# Altium schematic symbol library MCU_Texas_MSP430.SchLib: 361 symbols (part 3 of 7)
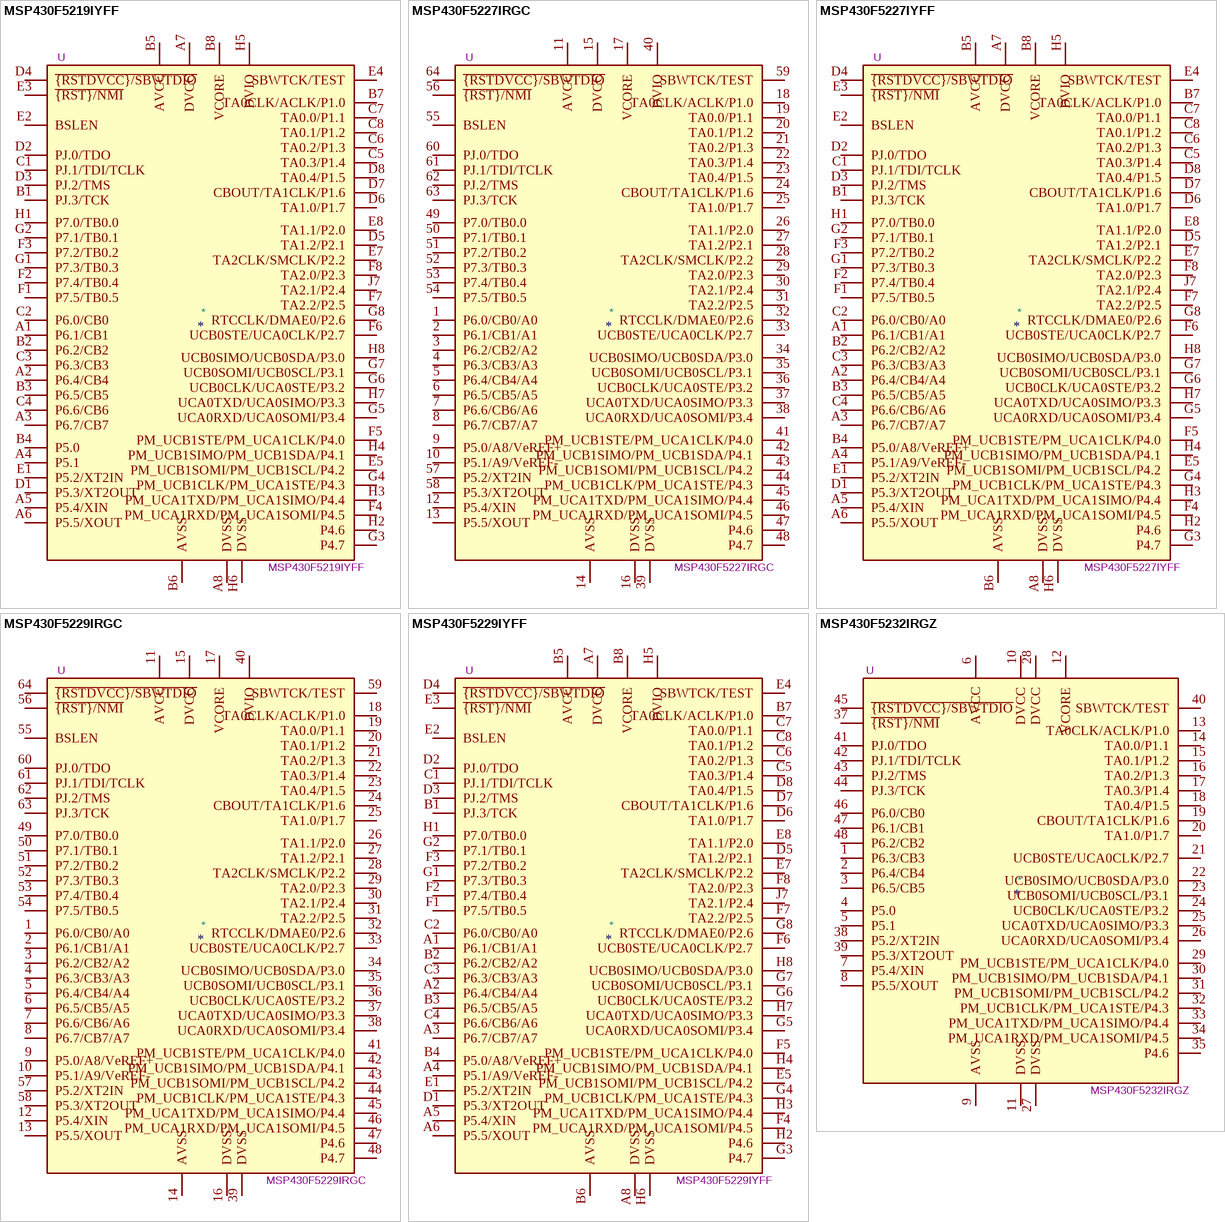
[diagram p36: symbols MSP430F5219IYFF to MSP430F5232IRGZ]

## MSP430F5232IRGZ
designator *  value MSP430F5232IRGZ  Reference: U
ki_keywords: TI MSP430 16-bit mixed signal microcontroller; ki_description: 64kB Flash, 8kB RAM, QFN-48; ki_fp_filters: Texas*S?PVQFN*; Footprint: Package_DFN_QFN:Texas_S-PVQFN-N48_EP5.15x5.15mm; Datasheet: http://www.ti.com/lit/ds/symlink/msp430f5232.pdf
pins: 1 P6.3/CB3, 2 P6.4/CB4, 3 P6.5/CB5, 4 P5.0, 5 P5.1, 6 AVCC, 7 P5.4/XIN, 8 P5.5/XOUT, 9 AVSS, 10 DVCC, 11 DVSS, 12 VCORE, 13 TA0CLK/ACLK/P1.0, 14 TA0.0/P1.1, 15 TA0.1/P1.2, 16 TA0.2/P1.3, 17 TA0.3/P1.4, 18 TA0.4/P1.5, 19 CBOUT/TA1CLK/P1.6, 20 TA1.0/P1.7, 21 UCB0STE/UCA0CLK/P2.7, 22 UCB0SIMO/UCB0SDA/P3.0, 23 UCB0SOMI/UCB0SCL/P3.1, 24 UCB0CLK/UCA0STE/P3.2, 25 UCA0TXD/UCA0SIMO/P3.3, 26 UCA0RXD/UCA0SOMI/P3.4, 27 DVSS, 28 DVCC, 29 PM_UCB1STE/PM_UCA1CLK/P4.0, 30 PM_UCB1SIMO/PM_UCB1SDA/P4.1, 31 PM_UCB1SOMI/PM_UCB1SCL/P4.2, 32 PM_UCB1CLK/PM_UCA1STE/P4.3, 33 PM_UCA1TXD/PM_UCA1SIMO/P4.4, 34 PM_UCA1RXD/PM_UCA1SOMI/P4.5, 35 P4.6, 37 ~{{RST}/NMI}, 38 P5.2/XT2IN, 39 P5.3/XT2OUT, 40 SBWTCK/TEST, 41 PJ.0/TDO, 42 PJ.1/TDI/TCLK, 43 PJ.2/TMS, 44 PJ.3/TCK, 45 ~{{RSTDVCC}/SBWTDIO}, 46 P6.0/CB0, 47 P6.1/CB1, 48 P6.2/CB2

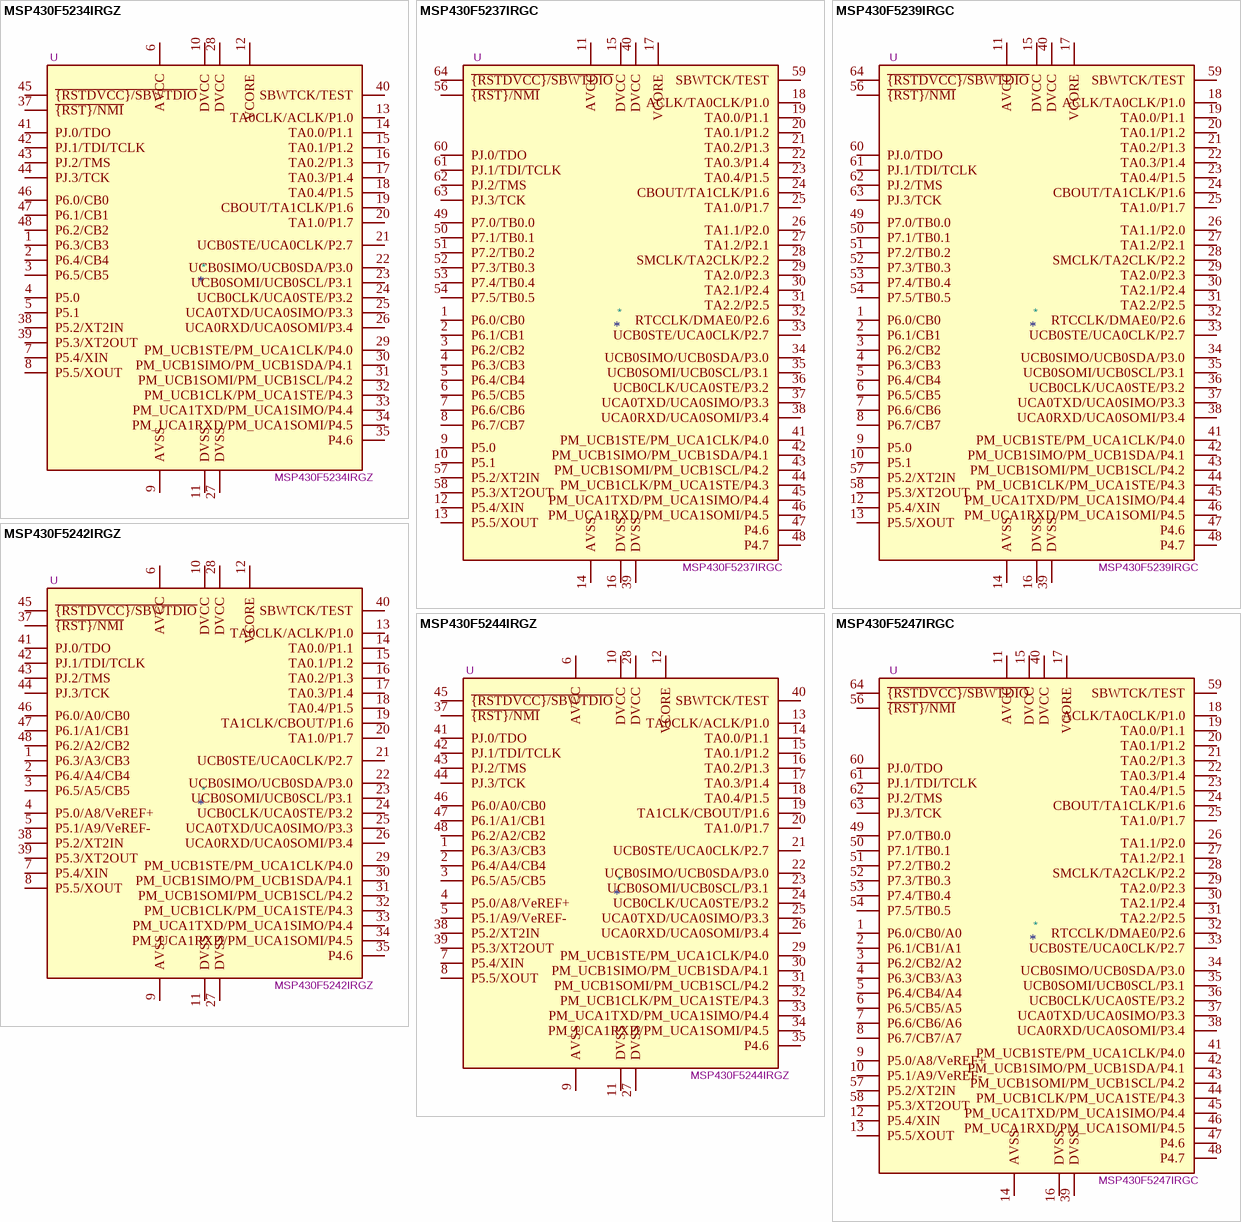
[diagram p9: symbols MSP430F5234IRGZ to MSP430F5247IRGC]

## MSP430F5234IRGZ
designator *  value MSP430F5234IRGZ  Reference: U
ki_keywords: TI MSP430 16-bit mixed signal microcontroller; ki_description: 128kB Flash, 8kB RAM, QFN-48; ki_fp_filters: Texas*S?PVQFN*; Footprint: Package_DFN_QFN:Texas_S-PVQFN-N48_EP5.15x5.15mm; Datasheet: http://www.ti.com/lit/ds/symlink/msp430f5234.pdf
pins: 1 P6.3/CB3, 2 P6.4/CB4, 3 P6.5/CB5, 4 P5.0, 5 P5.1, 6 AVCC, 7 P5.4/XIN, 8 P5.5/XOUT, 9 AVSS, 10 DVCC, 11 DVSS, 12 VCORE, 13 TA0CLK/ACLK/P1.0, 14 TA0.0/P1.1, 15 TA0.1/P1.2, 16 TA0.2/P1.3, 17 TA0.3/P1.4, 18 TA0.4/P1.5, 19 CBOUT/TA1CLK/P1.6, 20 TA1.0/P1.7, 21 UCB0STE/UCA0CLK/P2.7, 22 UCB0SIMO/UCB0SDA/P3.0, 23 UCB0SOMI/UCB0SCL/P3.1, 24 UCB0CLK/UCA0STE/P3.2, 25 UCA0TXD/UCA0SIMO/P3.3, 26 UCA0RXD/UCA0SOMI/P3.4, 27 DVSS, 28 DVCC, 29 PM_UCB1STE/PM_UCA1CLK/P4.0, 30 PM_UCB1SIMO/PM_UCB1SDA/P4.1, 31 PM_UCB1SOMI/PM_UCB1SCL/P4.2, 32 PM_UCB1CLK/PM_UCA1STE/P4.3, 33 PM_UCA1TXD/PM_UCA1SIMO/P4.4, 34 PM_UCA1RXD/PM_UCA1SOMI/P4.5, 35 P4.6, 37 ~{{RST}/NMI}, 38 P5.2/XT2IN, 39 P5.3/XT2OUT, 40 SBWTCK/TEST, 41 PJ.0/TDO, 42 PJ.1/TDI/TCLK, 43 PJ.2/TMS, 44 PJ.3/TCK, 45 ~{{RSTDVCC}/SBWTDIO}, 46 P6.0/CB0, 47 P6.1/CB1, 48 P6.2/CB2

## MSP430F5237IRGC
designator *  value MSP430F5237IRGC  Reference: U
ki_keywords: TI MSP430 16-bit mixed signal microcontroller; ki_description: 64kB Flash, 8kB RAM, QFN-64; ki_fp_filters: Texas*S?PVQFN*; Footprint: Package_DFN_QFN:Texas_S-PVQFN-N64_EP4.25x4.25mm; Datasheet: http://www.ti.com/lit/ds/symlink/msp430f5237.pdf
pins: 1 P6.0/CB0, 2 P6.1/CB1, 3 P6.2/CB2, 4 P6.3/CB3, 5 P6.4/CB4, 6 P6.5/CB5, 7 P6.6/CB6, 8 P6.7/CB7, 9 P5.0, 10 P5.1, 11 AVCC, 12 P5.4/XIN, 13 P5.5/XOUT, 14 AVSS, 15 DVCC, 16 DVSS, 17 VCORE, 18 ACLK/TA0CLK/P1.0, 19 TA0.0/P1.1, 20 TA0.1/P1.2, 21 TA0.2/P1.3, 22 TA0.3/P1.4, 23 TA0.4/P1.5, 24 CBOUT/TA1CLK/P1.6, 25 TA1.0/P1.7, 26 TA1.1/P2.0, 27 TA1.2/P2.1, 28 SMCLK/TA2CLK/P2.2, 29 TA2.0/P2.3, 30 TA2.1/P2.4, 31 TA2.2/P2.5, 32 RTCCLK/DMAE0/P2.6, 33 UCB0STE/UCA0CLK/P2.7, 34 UCB0SIMO/UCB0SDA/P3.0, 35 UCB0SOMI/UCB0SCL/P3.1, 36 UCB0CLK/UCA0STE/P3.2, 37 UCA0TXD/UCA0SIMO/P3.3, 38 UCA0RXD/UCA0SOMI/P3.4, 39 DVSS, 40 DVCC, 41 PM_UCB1STE/PM_UCA1CLK/P4.0, 42 PM_UCB1SIMO/PM_UCB1SDA/P4.1, 43 PM_UCB1SOMI/PM_UCB1SCL/P4.2, 44 PM_UCB1CLK/PM_UCA1STE/P4.3, 45 PM_UCA1TXD/PM_UCA1SIMO/P4.4, 46 PM_UCA1RXD/PM_UCA1SOMI/P4.5, 47 P4.6, 48 P4.7, 49 P7.0/TB0.0, 50 P7.1/TB0.1, 51 P7.2/TB0.2, 52 P7.3/TB0.3, 53 P7.4/TB0.4, 54 P7.5/TB0.5, 56 ~{{RST}/NMI}, 57 P5.2/XT2IN, 58 P5.3/XT2OUT, 59 SBWTCK/TEST, 60 PJ.0/TDO, 61 PJ.1/TDI/TCLK, 62 PJ.2/TMS, 63 PJ.3/TCK, 64 ~{{RSTDVCC}/SBWTDIO}

## MSP430F5239IRGC
designator *  value MSP430F5239IRGC  Reference: U
ki_keywords: TI MSP430 16-bit mixed signal microcontroller; ki_description: 128kB Flash, 8kB RAM, QFN-64; ki_fp_filters: Texas*S?PVQFN*; Footprint: Package_DFN_QFN:Texas_S-PVQFN-N64_EP4.25x4.25mm; Datasheet: http://www.ti.com/lit/ds/symlink/msp430f5239.pdf
pins: 1 P6.0/CB0, 2 P6.1/CB1, 3 P6.2/CB2, 4 P6.3/CB3, 5 P6.4/CB4, 6 P6.5/CB5, 7 P6.6/CB6, 8 P6.7/CB7, 9 P5.0, 10 P5.1, 11 AVCC, 12 P5.4/XIN, 13 P5.5/XOUT, 14 AVSS, 15 DVCC, 16 DVSS, 17 VCORE, 18 ACLK/TA0CLK/P1.0, 19 TA0.0/P1.1, 20 TA0.1/P1.2, 21 TA0.2/P1.3, 22 TA0.3/P1.4, 23 TA0.4/P1.5, 24 CBOUT/TA1CLK/P1.6, 25 TA1.0/P1.7, 26 TA1.1/P2.0, 27 TA1.2/P2.1, 28 SMCLK/TA2CLK/P2.2, 29 TA2.0/P2.3, 30 TA2.1/P2.4, 31 TA2.2/P2.5, 32 RTCCLK/DMAE0/P2.6, 33 UCB0STE/UCA0CLK/P2.7, 34 UCB0SIMO/UCB0SDA/P3.0, 35 UCB0SOMI/UCB0SCL/P3.1, 36 UCB0CLK/UCA0STE/P3.2, 37 UCA0TXD/UCA0SIMO/P3.3, 38 UCA0RXD/UCA0SOMI/P3.4, 39 DVSS, 40 DVCC, 41 PM_UCB1STE/PM_UCA1CLK/P4.0, 42 PM_UCB1SIMO/PM_UCB1SDA/P4.1, 43 PM_UCB1SOMI/PM_UCB1SCL/P4.2, 44 PM_UCB1CLK/PM_UCA1STE/P4.3, 45 PM_UCA1TXD/PM_UCA1SIMO/P4.4, 46 PM_UCA1RXD/PM_UCA1SOMI/P4.5, 47 P4.6, 48 P4.7, 49 P7.0/TB0.0, 50 P7.1/TB0.1, 51 P7.2/TB0.2, 52 P7.3/TB0.3, 53 P7.4/TB0.4, 54 P7.5/TB0.5, 56 ~{{RST}/NMI}, 57 P5.2/XT2IN, 58 P5.3/XT2OUT, 59 SBWTCK/TEST, 60 PJ.0/TDO, 61 PJ.1/TDI/TCLK, 62 PJ.2/TMS, 63 PJ.3/TCK, 64 ~{{RSTDVCC}/SBWTDIO}

## MSP430F5242IRGZ
designator *  value MSP430F5242IRGZ  Reference: U
ki_keywords: TI MSP430 16-bit mixed signal microcontroller; ki_description: 64kB Flash, 8kB RAM, QFN-48; ki_fp_filters: Texas*S?PVQFN*; Footprint: Package_DFN_QFN:Texas_S-PVQFN-N48_EP5.15x5.15mm; Datasheet: http://www.ti.com/lit/ds/symlink/msp430f5242.pdf
pins: 1 P6.3/A3/CB3, 2 P6.4/A4/CB4, 3 P6.5/A5/CB5, 4 P5.0/A8/VeREF+, 5 P5.1/A9/VeREF-, 6 AVCC, 7 P5.4/XIN, 8 P5.5/XOUT, 9 AVSS, 10 DVCC, 11 DVSS, 12 VCORE, 13 TA0CLK/ACLK/P1.0, 14 TA0.0/P1.1, 15 TA0.1/P1.2, 16 TA0.2/P1.3, 17 TA0.3/P1.4, 18 TA0.4/P1.5, 19 TA1CLK/CBOUT/P1.6, 20 TA1.0/P1.7, 21 UCB0STE/UCA0CLK/P2.7, 22 UCB0SIMO/UCB0SDA/P3.0, 23 UCB0SOMI/UCB0SCL/P3.1, 24 UCB0CLK/UCA0STE/P3.2, 25 UCA0TXD/UCA0SIMO/P3.3, 26 UCA0RXD/UCA0SOMI/P3.4, 27 DVSS, 28 DVCC, 29 PM_UCB1STE/PM_UCA1CLK/P4.0, 30 PM_UCB1SIMO/PM_UCB1SDA/P4.1, 31 PM_UCB1SOMI/PM_UCB1SCL/P4.2, 32 PM_UCB1CLK/PM_UCA1STE/P4.3, 33 PM_UCA1TXD/PM_UCA1SIMO/P4.4, 34 PM_UCA1RXD/PM_UCA1SOMI/P4.5, 35 P4.6, 37 ~{{RST}/NMI}, 38 P5.2/XT2IN, 39 P5.3/XT2OUT, 40 SBWTCK/TEST, 41 PJ.0/TDO, 42 PJ.1/TDI/TCLK, 43 PJ.2/TMS, 44 PJ.3/TCK, 45 ~{{RSTDVCC}/SBWTDIO}, 46 P6.0/A0/CB0, 47 P6.1/A1/CB1, 48 P6.2/A2/CB2

## MSP430F5244IRGZ
designator *  value MSP430F5244IRGZ  Reference: U
ki_keywords: TI MSP430 16-bit mixed signal microcontroller; ki_description: 128kB Flash, 8kB RAM, QFN-48; ki_fp_filters: Texas*S?PVQFN*; Footprint: Package_DFN_QFN:Texas_S-PVQFN-N48_EP5.15x5.15mm; Datasheet: http://www.ti.com/lit/ds/symlink/msp430f5244.pdf
pins: 1 P6.3/A3/CB3, 2 P6.4/A4/CB4, 3 P6.5/A5/CB5, 4 P5.0/A8/VeREF+, 5 P5.1/A9/VeREF-, 6 AVCC, 7 P5.4/XIN, 8 P5.5/XOUT, 9 AVSS, 10 DVCC, 11 DVSS, 12 VCORE, 13 TA0CLK/ACLK/P1.0, 14 TA0.0/P1.1, 15 TA0.1/P1.2, 16 TA0.2/P1.3, 17 TA0.3/P1.4, 18 TA0.4/P1.5, 19 TA1CLK/CBOUT/P1.6, 20 TA1.0/P1.7, 21 UCB0STE/UCA0CLK/P2.7, 22 UCB0SIMO/UCB0SDA/P3.0, 23 UCB0SOMI/UCB0SCL/P3.1, 24 UCB0CLK/UCA0STE/P3.2, 25 UCA0TXD/UCA0SIMO/P3.3, 26 UCA0RXD/UCA0SOMI/P3.4, 27 DVSS, 28 DVCC, 29 PM_UCB1STE/PM_UCA1CLK/P4.0, 30 PM_UCB1SIMO/PM_UCB1SDA/P4.1, 31 PM_UCB1SOMI/PM_UCB1SCL/P4.2, 32 PM_UCB1CLK/PM_UCA1STE/P4.3, 33 PM_UCA1TXD/PM_UCA1SIMO/P4.4, 34 PM_UCA1RXD/PM_UCA1SOMI/P4.5, 35 P4.6, 37 ~{{RST}/NMI}, 38 P5.2/XT2IN, 39 P5.3/XT2OUT, 40 SBWTCK/TEST, 41 PJ.0/TDO, 42 PJ.1/TDI/TCLK, 43 PJ.2/TMS, 44 PJ.3/TCK, 45 ~{{RSTDVCC}/SBWTDIO}, 46 P6.0/A0/CB0, 47 P6.1/A1/CB1, 48 P6.2/A2/CB2

## MSP430F5247IRGC
designator *  value MSP430F5247IRGC  Reference: U
ki_keywords: TI MSP430 16-bit mixed signal microcontroller; ki_description: 64kB Flash, 8kB RAM, QFN-64; ki_fp_filters: Texas*S?PVQFN*; Footprint: Package_DFN_QFN:Texas_S-PVQFN-N64_EP4.25x4.25mm; Datasheet: http://www.ti.com/lit/ds/symlink/msp430f5247.pdf
pins: 1 P6.0/CB0/A0, 2 P6.1/CB1/A1, 3 P6.2/CB2/A2, 4 P6.3/CB3/A3, 5 P6.4/CB4/A4, 6 P6.5/CB5/A5, 7 P6.6/CB6/A6, 8 P6.7/CB7/A7, 9 P5.0/A8/VeREF+, 10 P5.1/A9/VeREF-, 11 AVCC, 12 P5.4/XIN, 13 P5.5/XOUT, 14 AVSS, 15 DVCC, 16 DVSS, 17 VCORE, 18 ACLK/TA0CLK/P1.0, 19 TA0.0/P1.1, 20 TA0.1/P1.2, 21 TA0.2/P1.3, 22 TA0.3/P1.4, 23 TA0.4/P1.5, 24 CBOUT/TA1CLK/P1.6, 25 TA1.0/P1.7, 26 TA1.1/P2.0, 27 TA1.2/P2.1, 28 SMCLK/TA2CLK/P2.2, 29 TA2.0/P2.3, 30 TA2.1/P2.4, 31 TA2.2/P2.5, 32 RTCCLK/DMAE0/P2.6, 33 UCB0STE/UCA0CLK/P2.7, 34 UCB0SIMO/UCB0SDA/P3.0, 35 UCB0SOMI/UCB0SCL/P3.1, 36 UCB0CLK/UCA0STE/P3.2, 37 UCA0TXD/UCA0SIMO/P3.3, 38 UCA0RXD/UCA0SOMI/P3.4, 39 DVSS, 40 DVCC, 41 PM_UCB1STE/PM_UCA1CLK/P4.0, 42 PM_UCB1SIMO/PM_UCB1SDA/P4.1, 43 PM_UCB1SOMI/PM_UCB1SCL/P4.2, 44 PM_UCB1CLK/PM_UCA1STE/P4.3, 45 PM_UCA1TXD/PM_UCA1SIMO/P4.4, 46 PM_UCA1RXD/PM_UCA1SOMI/P4.5, 47 P4.6, 48 P4.7, 49 P7.0/TB0.0, 50 P7.1/TB0.1, 51 P7.2/TB0.2, 52 P7.3/TB0.3, 53 P7.4/TB0.4, 54 P7.5/TB0.5, 56 ~{{RST}/NMI}, 57 P5.2/XT2IN, 58 P5.3/XT2OUT, 59 SBWTCK/TEST, 60 PJ.0/TDO, 61 PJ.1/TDI/TCLK, 62 PJ.2/TMS, 63 PJ.3/TCK, 64 ~{{RSTDVCC}/SBWTDIO}

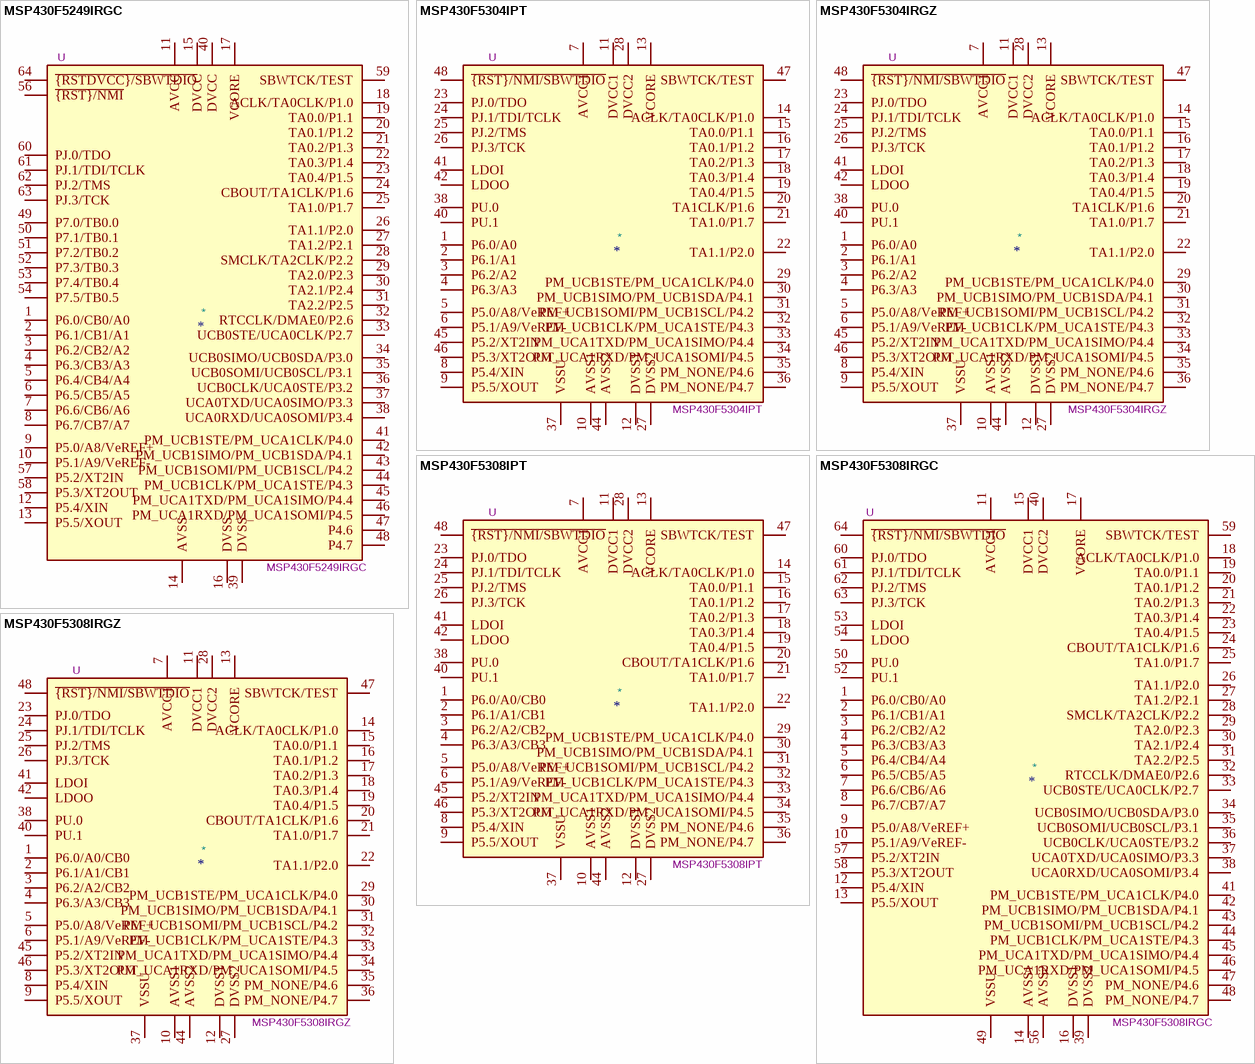
[diagram p10: symbols MSP430F5249IRGC to MSP430F5308IRGZ]

## MSP430F5249IRGC
designator *  value MSP430F5249IRGC  Reference: U
ki_keywords: TI MSP430 16-bit mixed signal microcontroller; ki_description: 128kB Flash, 8kB RAM, QFN-64; ki_fp_filters: Texas*S?PVQFN*; Footprint: Package_DFN_QFN:Texas_S-PVQFN-N64_EP4.25x4.25mm; Datasheet: http://www.ti.com/lit/ds/symlink/msp430f5249.pdf
pins: 1 P6.0/CB0/A0, 2 P6.1/CB1/A1, 3 P6.2/CB2/A2, 4 P6.3/CB3/A3, 5 P6.4/CB4/A4, 6 P6.5/CB5/A5, 7 P6.6/CB6/A6, 8 P6.7/CB7/A7, 9 P5.0/A8/VeREF+, 10 P5.1/A9/VeREF-, 11 AVCC, 12 P5.4/XIN, 13 P5.5/XOUT, 14 AVSS, 15 DVCC, 16 DVSS, 17 VCORE, 18 ACLK/TA0CLK/P1.0, 19 TA0.0/P1.1, 20 TA0.1/P1.2, 21 TA0.2/P1.3, 22 TA0.3/P1.4, 23 TA0.4/P1.5, 24 CBOUT/TA1CLK/P1.6, 25 TA1.0/P1.7, 26 TA1.1/P2.0, 27 TA1.2/P2.1, 28 SMCLK/TA2CLK/P2.2, 29 TA2.0/P2.3, 30 TA2.1/P2.4, 31 TA2.2/P2.5, 32 RTCCLK/DMAE0/P2.6, 33 UCB0STE/UCA0CLK/P2.7, 34 UCB0SIMO/UCB0SDA/P3.0, 35 UCB0SOMI/UCB0SCL/P3.1, 36 UCB0CLK/UCA0STE/P3.2, 37 UCA0TXD/UCA0SIMO/P3.3, 38 UCA0RXD/UCA0SOMI/P3.4, 39 DVSS, 40 DVCC, 41 PM_UCB1STE/PM_UCA1CLK/P4.0, 42 PM_UCB1SIMO/PM_UCB1SDA/P4.1, 43 PM_UCB1SOMI/PM_UCB1SCL/P4.2, 44 PM_UCB1CLK/PM_UCA1STE/P4.3, 45 PM_UCA1TXD/PM_UCA1SIMO/P4.4, 46 PM_UCA1RXD/PM_UCA1SOMI/P4.5, 47 P4.6, 48 P4.7, 49 P7.0/TB0.0, 50 P7.1/TB0.1, 51 P7.2/TB0.2, 52 P7.3/TB0.3, 53 P7.4/TB0.4, 54 P7.5/TB0.5, 56 ~{{RST}/NMI}, 57 P5.2/XT2IN, 58 P5.3/XT2OUT, 59 SBWTCK/TEST, 60 PJ.0/TDO, 61 PJ.1/TDI/TCLK, 62 PJ.2/TMS, 63 PJ.3/TCK, 64 ~{{RSTDVCC}/SBWTDIO}

## MSP430F5304IPT
designator *  value MSP430F5304IPT  Reference: U
ki_keywords: TI MSP430 16-bit mixed signal microcontroller; ki_description: 8kB Flash, 6kB RAM, LQFP-48; ki_fp_filters: LQFP*7x7mm*P0.5mm*; Footprint: Package_QFP:LQFP-48_7x7mm_P0.5mm; Datasheet: http://www.ti.com/lit/ds/symlink/msp430f5304.pdf
pins: 1 P6.0/A0, 2 P6.1/A1, 3 P6.2/A2, 4 P6.3/A3, 5 P5.0/A8/VeREF+, 6 P5.1/A9/VeREF-, 7 AVCC1, 8 P5.4/XIN, 9 P5.5/XOUT, 10 AVSS1, 11 DVCC1, 12 DVSS1, 13 VCORE, 14 ACLK/TA0CLK/P1.0, 15 TA0.0/P1.1, 16 TA0.1/P1.2, 17 TA0.2/P1.3, 18 TA0.3/P1.4, 19 TA0.4/P1.5, 20 TA1CLK/P1.6, 21 TA1.0/P1.7, 22 TA1.1/P2.0, 23 PJ.0/TDO, 24 PJ.1/TDI/TCLK, 25 PJ.2/TMS, 26 PJ.3/TCK, 27 DVSS2, 28 DVCC2, 29 PM_UCB1STE/PM_UCA1CLK/P4.0, 30 PM_UCB1SIMO/PM_UCB1SDA/P4.1, 31 PM_UCB1SOMI/PM_UCB1SCL/P4.2, 32 PM_UCB1CLK/PM_UCA1STE/P4.3, 33 PM_UCA1TXD/PM_UCA1SIMO/P4.4, 34 PM_UCA1RXD/PM_UCA1SOMI/P4.5, 35 PM_NONE/P4.6, 36 PM_NONE/P4.7, 37 VSSU, 38 PU.0, 40 PU.1, 41 LDOI, 42 LDOO, 44 AVSS2, 45 P5.2/XT2IN, 46 P5.3/XT2OUT, 47 SBWTCK/TEST, 48 ~{{RST}/NMI/SBWTDIO}

## MSP430F5304IRGZ
designator *  value MSP430F5304IRGZ  Reference: U
ki_keywords: TI MSP430 16-bit mixed signal microcontroller; ki_description: 8kB Flash, 6kB RAM, QFN-48; ki_fp_filters: Texas*S?PVQFN*; Footprint: Package_DFN_QFN:Texas_S-PVQFN-N48_EP5.15x5.15mm; Datasheet: http://www.ti.com/lit/ds/symlink/msp430f5304.pdf
pins: 1 P6.0/A0, 2 P6.1/A1, 3 P6.2/A2, 4 P6.3/A3, 5 P5.0/A8/VeREF+, 6 P5.1/A9/VeREF-, 7 AVCC1, 8 P5.4/XIN, 9 P5.5/XOUT, 10 AVSS1, 11 DVCC1, 12 DVSS1, 13 VCORE, 14 ACLK/TA0CLK/P1.0, 15 TA0.0/P1.1, 16 TA0.1/P1.2, 17 TA0.2/P1.3, 18 TA0.3/P1.4, 19 TA0.4/P1.5, 20 TA1CLK/P1.6, 21 TA1.0/P1.7, 22 TA1.1/P2.0, 23 PJ.0/TDO, 24 PJ.1/TDI/TCLK, 25 PJ.2/TMS, 26 PJ.3/TCK, 27 DVSS2, 28 DVCC2, 29 PM_UCB1STE/PM_UCA1CLK/P4.0, 30 PM_UCB1SIMO/PM_UCB1SDA/P4.1, 31 PM_UCB1SOMI/PM_UCB1SCL/P4.2, 32 PM_UCB1CLK/PM_UCA1STE/P4.3, 33 PM_UCA1TXD/PM_UCA1SIMO/P4.4, 34 PM_UCA1RXD/PM_UCA1SOMI/P4.5, 35 PM_NONE/P4.6, 36 PM_NONE/P4.7, 37 VSSU, 38 PU.0, 40 PU.1, 41 LDOI, 42 LDOO, 44 AVSS2, 45 P5.2/XT2IN, 46 P5.3/XT2OUT, 47 SBWTCK/TEST, 48 ~{{RST}/NMI/SBWTDIO}

## MSP430F5308IPT
designator *  value MSP430F5308IPT  Reference: U
ki_keywords: TI MSP430 16-bit mixed signal microcontroller; ki_description: 16kB Flash, 6kB RAM, LQFP-48; ki_fp_filters: LQFP*7x7mm*P0.5mm*; Footprint: Package_QFP:LQFP-48_7x7mm_P0.5mm; Datasheet: http://www.ti.com/lit/ds/symlink/msp430f5308.pdf
pins: 1 P6.0/A0/CB0, 2 P6.1/A1/CB1, 3 P6.2/A2/CB2, 4 P6.3/A3/CB3, 5 P5.0/A8/VeREF+, 6 P5.1/A9/VeREF-, 7 AVCC1, 8 P5.4/XIN, 9 P5.5/XOUT, 10 AVSS1, 11 DVCC1, 12 DVSS1, 13 VCORE, 14 ACLK/TA0CLK/P1.0, 15 TA0.0/P1.1, 16 TA0.1/P1.2, 17 TA0.2/P1.3, 18 TA0.3/P1.4, 19 TA0.4/P1.5, 20 CBOUT/TA1CLK/P1.6, 21 TA1.0/P1.7, 22 TA1.1/P2.0, 23 PJ.0/TDO, 24 PJ.1/TDI/TCLK, 25 PJ.2/TMS, 26 PJ.3/TCK, 27 DVSS2, 28 DVCC2, 29 PM_UCB1STE/PM_UCA1CLK/P4.0, 30 PM_UCB1SIMO/PM_UCB1SDA/P4.1, 31 PM_UCB1SOMI/PM_UCB1SCL/P4.2, 32 PM_UCB1CLK/PM_UCA1STE/P4.3, 33 PM_UCA1TXD/PM_UCA1SIMO/P4.4, 34 PM_UCA1RXD/PM_UCA1SOMI/P4.5, 35 PM_NONE/P4.6, 36 PM_NONE/P4.7, 37 VSSU, 38 PU.0, 40 PU.1, 41 LDOI, 42 LDOO, 44 AVSS2, 45 P5.2/XT2IN, 46 P5.3/XT2OUT, 47 SBWTCK/TEST, 48 ~{{RST}/NMI/SBWTDIO}

## MSP430F5308IRGC
designator *  value MSP430F5308IRGC  Reference: U
ki_keywords: TI MSP430 16-bit mixed signal microcontroller; ki_description: 16kB Flash, 6kB RAM, QFN-64; ki_fp_filters: Texas*S?PVQFN*; Footprint: Package_DFN_QFN:Texas_S-PVQFN-N64_EP4.25x4.25mm; Datasheet: http://www.ti.com/lit/ds/symlink/msp430f5308.pdf
pins: 1 P6.0/CB0/A0, 2 P6.1/CB1/A1, 3 P6.2/CB2/A2, 4 P6.3/CB3/A3, 5 P6.4/CB4/A4, 6 P6.5/CB5/A5, 7 P6.6/CB6/A6, 8 P6.7/CB7/A7, 9 P5.0/A8/VeREF+, 10 P5.1/A9/VeREF-, 11 AVCC1, 12 P5.4/XIN, 13 P5.5/XOUT, 14 AVSS1, 15 DVCC1, 16 DVSS1, 17 VCORE, 18 ACLK/TA0CLK/P1.0, 19 TA0.0/P1.1, 20 TA0.1/P1.2, 21 TA0.2/P1.3, 22 TA0.3/P1.4, 23 TA0.4/P1.5, 24 CBOUT/TA1CLK/P1.6, 25 TA1.0/P1.7, 26 TA1.1/P2.0, 27 TA1.2/P2.1, 28 SMCLK/TA2CLK/P2.2, 29 TA2.0/P2.3, 30 TA2.1/P2.4, 31 TA2.2/P2.5, 32 RTCCLK/DMAE0/P2.6, 33 UCB0STE/UCA0CLK/P2.7, 34 UCB0SIMO/UCB0SDA/P3.0, 35 UCB0SOMI/UCB0SCL/P3.1, 36 UCB0CLK/UCA0STE/P3.2, 37 UCA0TXD/UCA0SIMO/P3.3, 38 UCA0RXD/UCA0SOMI/P3.4, 39 DVSS2, 40 DVCC2, 41 PM_UCB1STE/PM_UCA1CLK/P4.0, 42 PM_UCB1SIMO/PM_UCB1SDA/P4.1, 43 PM_UCB1SOMI/PM_UCB1SCL/P4.2, 44 PM_UCB1CLK/PM_UCA1STE/P4.3, 45 PM_UCA1TXD/PM_UCA1SIMO/P4.4, 46 PM_UCA1RXD/PM_UCA1SOMI/P4.5, 47 PM_NONE/P4.6, 48 PM_NONE/P4.7, 49 VSSU, 50 PU.0, 52 PU.1, 53 LDOI, 54 LDOO, 56 AVSS2, 57 P5.2/XT2IN, 58 P5.3/XT2OUT, 59 SBWTCK/TEST, 60 PJ.0/TDO, 61 PJ.1/TDI/TCLK, 62 PJ.2/TMS, 63 PJ.3/TCK, 64 ~{{RST}/NMI/SBWTDIO}

## MSP430F5308IRGZ
designator *  value MSP430F5308IRGZ  Reference: U
ki_keywords: TI MSP430 16-bit mixed signal microcontroller; ki_description: 16kB Flash, 6kB RAM, QFN-48; ki_fp_filters: Texas*S?PVQFN*; Footprint: Package_DFN_QFN:Texas_S-PVQFN-N48_EP5.15x5.15mm; Datasheet: http://www.ti.com/lit/ds/symlink/msp430f5308.pdf
pins: 1 P6.0/A0/CB0, 2 P6.1/A1/CB1, 3 P6.2/A2/CB2, 4 P6.3/A3/CB3, 5 P5.0/A8/VeREF+, 6 P5.1/A9/VeREF-, 7 AVCC1, 8 P5.4/XIN, 9 P5.5/XOUT, 10 AVSS1, 11 DVCC1, 12 DVSS1, 13 VCORE, 14 ACLK/TA0CLK/P1.0, 15 TA0.0/P1.1, 16 TA0.1/P1.2, 17 TA0.2/P1.3, 18 TA0.3/P1.4, 19 TA0.4/P1.5, 20 CBOUT/TA1CLK/P1.6, 21 TA1.0/P1.7, 22 TA1.1/P2.0, 23 PJ.0/TDO, 24 PJ.1/TDI/TCLK, 25 PJ.2/TMS, 26 PJ.3/TCK, 27 DVSS2, 28 DVCC2, 29 PM_UCB1STE/PM_UCA1CLK/P4.0, 30 PM_UCB1SIMO/PM_UCB1SDA/P4.1, 31 PM_UCB1SOMI/PM_UCB1SCL/P4.2, 32 PM_UCB1CLK/PM_UCA1STE/P4.3, 33 PM_UCA1TXD/PM_UCA1SIMO/P4.4, 34 PM_UCA1RXD/PM_UCA1SOMI/P4.5, 35 PM_NONE/P4.6, 36 PM_NONE/P4.7, 37 VSSU, 38 PU.0, 40 PU.1, 41 LDOI, 42 LDOO, 44 AVSS2, 45 P5.2/XT2IN, 46 P5.3/XT2OUT, 47 SBWTCK/TEST, 48 ~{{RST}/NMI/SBWTDIO}

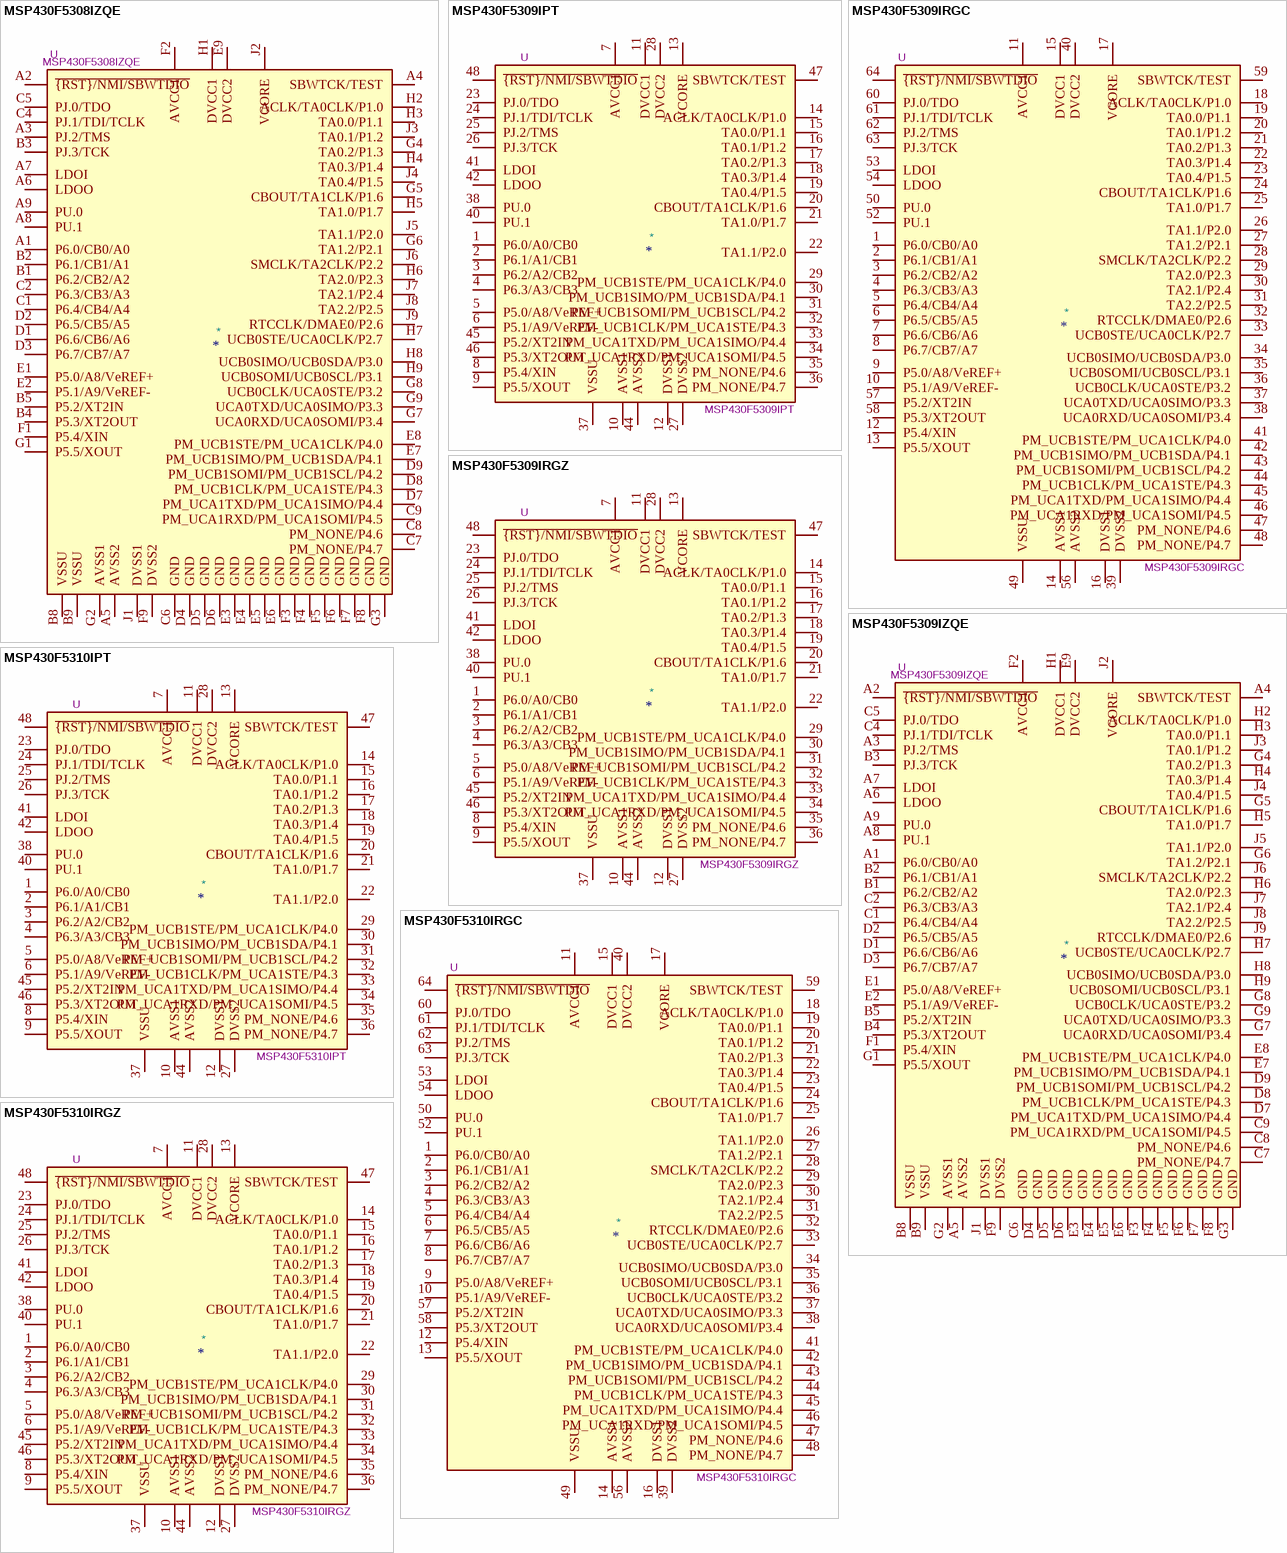
[diagram p11: symbols MSP430F5308IZQE to MSP430F5310IRGZ]

## MSP430F5308IZQE
designator *  value MSP430F5308IZQE  Reference: U
ki_keywords: TI MSP430 16-bit mixed signal microcontroller; ki_description: 16kB Flash, 6kB RAM, BGA-80; ki_fp_filters: Texas*MicroStar*Junior*BGA*5.0x5.0mm*Layout9x9*P0.5mm*; Footprint: Package_BGA:Texas_MicroStar_Junior_BGA-80_5.0x5.0mm_Layout9x9_P0.5mm; Datasheet: http://www.ti.com/lit/ds/symlink/msp430f5308.pdf
pins: A1 P6.0/CB0/A0, A2 ~{{RST}/NMI/SBWTDIO}, A3 PJ.2/TMS, A4 SBWTCK/TEST, A5 AVSS2, A6 LDOO, A7 LDOI, A8 PU.1, A9 PU.0, B1 P6.2/CB2/A2, B2 P6.1/CB1/A1, B3 PJ.3/TCK, B4 P5.3/XT2OUT, B5 P5.2/XT2IN, B8 VSSU, B9 VSSU, C1 P6.4/CB4/A4, C2 P6.3/CB3/A3, C4 PJ.1/TDI/TCLK, C5 PJ.0/TDO, C6 GND, C7 PM_NONE/P4.7, C8 PM_NONE/P4.6, C9 PM_UCA1RXD/PM_UCA1SOMI/P4.5, D1 P6.6/CB6/A6, D2 P6.5/CB5/A5, D3 P6.7/CB7/A7, D4 GND, D5 GND, D6 GND, D7 PM_UCA1TXD/PM_UCA1SIMO/P4.4, D8 PM_UCB1CLK/PM_UCA1STE/P4.3, D9 PM_UCB1SOMI/PM_UCB1SCL/P4.2, E1 P5.0/A8/VeREF+, E2 P5.1/A9/VeREF-, E3 GND, E4 GND, E5 GND, E6 GND, E7 PM_UCB1SIMO/PM_UCB1SDA/P4.1, E8 PM_UCB1STE/PM_UCA1CLK/P4.0, E9 DVCC2, F1 P5.4/XIN, F2 AVCC1, F3 GND, F4 GND, F5 GND, F6 GND, F7 GND, F8 GND, F9 DVSS2, G1 P5.5/XOUT, G2 AVSS1, G3 GND, G4 TA0.2/P1.3, G5 CBOUT/TA1CLK/P1.6, G6 TA1.2/P2.1, G7 UCA0RXD/UCA0SOMI/P3.4, G8 UCB0CLK/UCA0STE/P3.2, G9 UCA0TXD/UCA0SIMO/P3.3, H1 DVCC1, H2 ACLK/TA0CLK/P1.0, H3 TA0.0/P1.1, H4 TA0.3/P1.4, H5 TA1.0/P1.7, H6 TA2.0/P2.3, H7 UCB0STE/UCA0CLK/P2.7, H8 UCB0SIMO/UCB0SDA/P3.0, H9 UCB0SOMI/UCB0SCL/P3.1, J1 DVSS1, J2 VCORE, J3 TA0.1/P1.2, J4 TA0.4/P1.5, J5 TA1.1/P2.0, J6 SMCLK/TA2CLK/P2.2, J7 TA2.1/P2.4, J8 TA2.2/P2.5, J9 RTCCLK/DMAE0/P2.6

## MSP430F5309IPT
designator *  value MSP430F5309IPT  Reference: U
ki_keywords: TI MSP430 16-bit mixed signal microcontroller; ki_description: 24kB Flash, 6kB RAM, LQFP-48; ki_fp_filters: LQFP*7x7mm*P0.5mm*; Footprint: Package_QFP:LQFP-48_7x7mm_P0.5mm; Datasheet: http://www.ti.com/lit/ds/symlink/msp430f5309.pdf
pins: 1 P6.0/A0/CB0, 2 P6.1/A1/CB1, 3 P6.2/A2/CB2, 4 P6.3/A3/CB3, 5 P5.0/A8/VeREF+, 6 P5.1/A9/VeREF-, 7 AVCC1, 8 P5.4/XIN, 9 P5.5/XOUT, 10 AVSS1, 11 DVCC1, 12 DVSS1, 13 VCORE, 14 ACLK/TA0CLK/P1.0, 15 TA0.0/P1.1, 16 TA0.1/P1.2, 17 TA0.2/P1.3, 18 TA0.3/P1.4, 19 TA0.4/P1.5, 20 CBOUT/TA1CLK/P1.6, 21 TA1.0/P1.7, 22 TA1.1/P2.0, 23 PJ.0/TDO, 24 PJ.1/TDI/TCLK, 25 PJ.2/TMS, 26 PJ.3/TCK, 27 DVSS2, 28 DVCC2, 29 PM_UCB1STE/PM_UCA1CLK/P4.0, 30 PM_UCB1SIMO/PM_UCB1SDA/P4.1, 31 PM_UCB1SOMI/PM_UCB1SCL/P4.2, 32 PM_UCB1CLK/PM_UCA1STE/P4.3, 33 PM_UCA1TXD/PM_UCA1SIMO/P4.4, 34 PM_UCA1RXD/PM_UCA1SOMI/P4.5, 35 PM_NONE/P4.6, 36 PM_NONE/P4.7, 37 VSSU, 38 PU.0, 40 PU.1, 41 LDOI, 42 LDOO, 44 AVSS2, 45 P5.2/XT2IN, 46 P5.3/XT2OUT, 47 SBWTCK/TEST, 48 ~{{RST}/NMI/SBWTDIO}

## MSP430F5309IRGC
designator *  value MSP430F5309IRGC  Reference: U
ki_keywords: TI MSP430 16-bit mixed signal microcontroller; ki_description: 24kB Flash, 6kB RAM, QFN-64; ki_fp_filters: Texas*S?PVQFN*; Footprint: Package_DFN_QFN:Texas_S-PVQFN-N64_EP4.25x4.25mm; Datasheet: http://www.ti.com/lit/ds/symlink/msp430f5309.pdf
pins: 1 P6.0/CB0/A0, 2 P6.1/CB1/A1, 3 P6.2/CB2/A2, 4 P6.3/CB3/A3, 5 P6.4/CB4/A4, 6 P6.5/CB5/A5, 7 P6.6/CB6/A6, 8 P6.7/CB7/A7, 9 P5.0/A8/VeREF+, 10 P5.1/A9/VeREF-, 11 AVCC1, 12 P5.4/XIN, 13 P5.5/XOUT, 14 AVSS1, 15 DVCC1, 16 DVSS1, 17 VCORE, 18 ACLK/TA0CLK/P1.0, 19 TA0.0/P1.1, 20 TA0.1/P1.2, 21 TA0.2/P1.3, 22 TA0.3/P1.4, 23 TA0.4/P1.5, 24 CBOUT/TA1CLK/P1.6, 25 TA1.0/P1.7, 26 TA1.1/P2.0, 27 TA1.2/P2.1, 28 SMCLK/TA2CLK/P2.2, 29 TA2.0/P2.3, 30 TA2.1/P2.4, 31 TA2.2/P2.5, 32 RTCCLK/DMAE0/P2.6, 33 UCB0STE/UCA0CLK/P2.7, 34 UCB0SIMO/UCB0SDA/P3.0, 35 UCB0SOMI/UCB0SCL/P3.1, 36 UCB0CLK/UCA0STE/P3.2, 37 UCA0TXD/UCA0SIMO/P3.3, 38 UCA0RXD/UCA0SOMI/P3.4, 39 DVSS2, 40 DVCC2, 41 PM_UCB1STE/PM_UCA1CLK/P4.0, 42 PM_UCB1SIMO/PM_UCB1SDA/P4.1, 43 PM_UCB1SOMI/PM_UCB1SCL/P4.2, 44 PM_UCB1CLK/PM_UCA1STE/P4.3, 45 PM_UCA1TXD/PM_UCA1SIMO/P4.4, 46 PM_UCA1RXD/PM_UCA1SOMI/P4.5, 47 PM_NONE/P4.6, 48 PM_NONE/P4.7, 49 VSSU, 50 PU.0, 52 PU.1, 53 LDOI, 54 LDOO, 56 AVSS2, 57 P5.2/XT2IN, 58 P5.3/XT2OUT, 59 SBWTCK/TEST, 60 PJ.0/TDO, 61 PJ.1/TDI/TCLK, 62 PJ.2/TMS, 63 PJ.3/TCK, 64 ~{{RST}/NMI/SBWTDIO}

## MSP430F5309IRGZ
designator *  value MSP430F5309IRGZ  Reference: U
ki_keywords: TI MSP430 16-bit mixed signal microcontroller; ki_description: 24kB Flash, 6kB RAM, QFN-48; ki_fp_filters: Texas*S?PVQFN*; Footprint: Package_DFN_QFN:Texas_S-PVQFN-N48_EP5.15x5.15mm; Datasheet: http://www.ti.com/lit/ds/symlink/msp430f5309.pdf
pins: 1 P6.0/A0/CB0, 2 P6.1/A1/CB1, 3 P6.2/A2/CB2, 4 P6.3/A3/CB3, 5 P5.0/A8/VeREF+, 6 P5.1/A9/VeREF-, 7 AVCC1, 8 P5.4/XIN, 9 P5.5/XOUT, 10 AVSS1, 11 DVCC1, 12 DVSS1, 13 VCORE, 14 ACLK/TA0CLK/P1.0, 15 TA0.0/P1.1, 16 TA0.1/P1.2, 17 TA0.2/P1.3, 18 TA0.3/P1.4, 19 TA0.4/P1.5, 20 CBOUT/TA1CLK/P1.6, 21 TA1.0/P1.7, 22 TA1.1/P2.0, 23 PJ.0/TDO, 24 PJ.1/TDI/TCLK, 25 PJ.2/TMS, 26 PJ.3/TCK, 27 DVSS2, 28 DVCC2, 29 PM_UCB1STE/PM_UCA1CLK/P4.0, 30 PM_UCB1SIMO/PM_UCB1SDA/P4.1, 31 PM_UCB1SOMI/PM_UCB1SCL/P4.2, 32 PM_UCB1CLK/PM_UCA1STE/P4.3, 33 PM_UCA1TXD/PM_UCA1SIMO/P4.4, 34 PM_UCA1RXD/PM_UCA1SOMI/P4.5, 35 PM_NONE/P4.6, 36 PM_NONE/P4.7, 37 VSSU, 38 PU.0, 40 PU.1, 41 LDOI, 42 LDOO, 44 AVSS2, 45 P5.2/XT2IN, 46 P5.3/XT2OUT, 47 SBWTCK/TEST, 48 ~{{RST}/NMI/SBWTDIO}

## MSP430F5309IZQE
designator *  value MSP430F5309IZQE  Reference: U
ki_keywords: TI MSP430 16-bit mixed signal microcontroller; ki_description: 24kB Flash, 6kB RAM, BGA-80; ki_fp_filters: Texas*MicroStar*Junior*BGA*5.0x5.0mm*Layout9x9*P0.5mm*; Footprint: Package_BGA:Texas_MicroStar_Junior_BGA-80_5.0x5.0mm_Layout9x9_P0.5mm; Datasheet: http://www.ti.com/lit/ds/symlink/msp430f5309.pdf
pins: A1 P6.0/CB0/A0, A2 ~{{RST}/NMI/SBWTDIO}, A3 PJ.2/TMS, A4 SBWTCK/TEST, A5 AVSS2, A6 LDOO, A7 LDOI, A8 PU.1, A9 PU.0, B1 P6.2/CB2/A2, B2 P6.1/CB1/A1, B3 PJ.3/TCK, B4 P5.3/XT2OUT, B5 P5.2/XT2IN, B8 VSSU, B9 VSSU, C1 P6.4/CB4/A4, C2 P6.3/CB3/A3, C4 PJ.1/TDI/TCLK, C5 PJ.0/TDO, C6 GND, C7 PM_NONE/P4.7, C8 PM_NONE/P4.6, C9 PM_UCA1RXD/PM_UCA1SOMI/P4.5, D1 P6.6/CB6/A6, D2 P6.5/CB5/A5, D3 P6.7/CB7/A7, D4 GND, D5 GND, D6 GND, D7 PM_UCA1TXD/PM_UCA1SIMO/P4.4, D8 PM_UCB1CLK/PM_UCA1STE/P4.3, D9 PM_UCB1SOMI/PM_UCB1SCL/P4.2, E1 P5.0/A8/VeREF+, E2 P5.1/A9/VeREF-, E3 GND, E4 GND, E5 GND, E6 GND, E7 PM_UCB1SIMO/PM_UCB1SDA/P4.1, E8 PM_UCB1STE/PM_UCA1CLK/P4.0, E9 DVCC2, F1 P5.4/XIN, F2 AVCC1, F3 GND, F4 GND, F5 GND, F6 GND, F7 GND, F8 GND, F9 DVSS2, G1 P5.5/XOUT, G2 AVSS1, G3 GND, G4 TA0.2/P1.3, G5 CBOUT/TA1CLK/P1.6, G6 TA1.2/P2.1, G7 UCA0RXD/UCA0SOMI/P3.4, G8 UCB0CLK/UCA0STE/P3.2, G9 UCA0TXD/UCA0SIMO/P3.3, H1 DVCC1, H2 ACLK/TA0CLK/P1.0, H3 TA0.0/P1.1, H4 TA0.3/P1.4, H5 TA1.0/P1.7, H6 TA2.0/P2.3, H7 UCB0STE/UCA0CLK/P2.7, H8 UCB0SIMO/UCB0SDA/P3.0, H9 UCB0SOMI/UCB0SCL/P3.1, J1 DVSS1, J2 VCORE, J3 TA0.1/P1.2, J4 TA0.4/P1.5, J5 TA1.1/P2.0, J6 SMCLK/TA2CLK/P2.2, J7 TA2.1/P2.4, J8 TA2.2/P2.5, J9 RTCCLK/DMAE0/P2.6

## MSP430F5310IPT
designator *  value MSP430F5310IPT  Reference: U
ki_keywords: TI MSP430 16-bit mixed signal microcontroller; ki_description: 32kB Flash, 6kB RAM, LQFP-48; ki_fp_filters: LQFP*7x7mm*P0.5mm*; Footprint: Package_QFP:LQFP-48_7x7mm_P0.5mm; Datasheet: http://www.ti.com/lit/ds/symlink/msp430f5310.pdf
pins: 1 P6.0/A0/CB0, 2 P6.1/A1/CB1, 3 P6.2/A2/CB2, 4 P6.3/A3/CB3, 5 P5.0/A8/VeREF+, 6 P5.1/A9/VeREF-, 7 AVCC1, 8 P5.4/XIN, 9 P5.5/XOUT, 10 AVSS1, 11 DVCC1, 12 DVSS1, 13 VCORE, 14 ACLK/TA0CLK/P1.0, 15 TA0.0/P1.1, 16 TA0.1/P1.2, 17 TA0.2/P1.3, 18 TA0.3/P1.4, 19 TA0.4/P1.5, 20 CBOUT/TA1CLK/P1.6, 21 TA1.0/P1.7, 22 TA1.1/P2.0, 23 PJ.0/TDO, 24 PJ.1/TDI/TCLK, 25 PJ.2/TMS, 26 PJ.3/TCK, 27 DVSS2, 28 DVCC2, 29 PM_UCB1STE/PM_UCA1CLK/P4.0, 30 PM_UCB1SIMO/PM_UCB1SDA/P4.1, 31 PM_UCB1SOMI/PM_UCB1SCL/P4.2, 32 PM_UCB1CLK/PM_UCA1STE/P4.3, 33 PM_UCA1TXD/PM_UCA1SIMO/P4.4, 34 PM_UCA1RXD/PM_UCA1SOMI/P4.5, 35 PM_NONE/P4.6, 36 PM_NONE/P4.7, 37 VSSU, 38 PU.0, 40 PU.1, 41 LDOI, 42 LDOO, 44 AVSS2, 45 P5.2/XT2IN, 46 P5.3/XT2OUT, 47 SBWTCK/TEST, 48 ~{{RST}/NMI/SBWTDIO}

## MSP430F5310IRGC
designator *  value MSP430F5310IRGC  Reference: U
ki_keywords: TI MSP430 16-bit mixed signal microcontroller; ki_description: 32kB Flash, 6kB RAM, QFN-64; ki_fp_filters: Texas*S?PVQFN*; Footprint: Package_DFN_QFN:Texas_S-PVQFN-N64_EP4.25x4.25mm; Datasheet: http://www.ti.com/lit/ds/symlink/msp430f5310.pdf
pins: 1 P6.0/CB0/A0, 2 P6.1/CB1/A1, 3 P6.2/CB2/A2, 4 P6.3/CB3/A3, 5 P6.4/CB4/A4, 6 P6.5/CB5/A5, 7 P6.6/CB6/A6, 8 P6.7/CB7/A7, 9 P5.0/A8/VeREF+, 10 P5.1/A9/VeREF-, 11 AVCC1, 12 P5.4/XIN, 13 P5.5/XOUT, 14 AVSS1, 15 DVCC1, 16 DVSS1, 17 VCORE, 18 ACLK/TA0CLK/P1.0, 19 TA0.0/P1.1, 20 TA0.1/P1.2, 21 TA0.2/P1.3, 22 TA0.3/P1.4, 23 TA0.4/P1.5, 24 CBOUT/TA1CLK/P1.6, 25 TA1.0/P1.7, 26 TA1.1/P2.0, 27 TA1.2/P2.1, 28 SMCLK/TA2CLK/P2.2, 29 TA2.0/P2.3, 30 TA2.1/P2.4, 31 TA2.2/P2.5, 32 RTCCLK/DMAE0/P2.6, 33 UCB0STE/UCA0CLK/P2.7, 34 UCB0SIMO/UCB0SDA/P3.0, 35 UCB0SOMI/UCB0SCL/P3.1, 36 UCB0CLK/UCA0STE/P3.2, 37 UCA0TXD/UCA0SIMO/P3.3, 38 UCA0RXD/UCA0SOMI/P3.4, 39 DVSS2, 40 DVCC2, 41 PM_UCB1STE/PM_UCA1CLK/P4.0, 42 PM_UCB1SIMO/PM_UCB1SDA/P4.1, 43 PM_UCB1SOMI/PM_UCB1SCL/P4.2, 44 PM_UCB1CLK/PM_UCA1STE/P4.3, 45 PM_UCA1TXD/PM_UCA1SIMO/P4.4, 46 PM_UCA1RXD/PM_UCA1SOMI/P4.5, 47 PM_NONE/P4.6, 48 PM_NONE/P4.7, 49 VSSU, 50 PU.0, 52 PU.1, 53 LDOI, 54 LDOO, 56 AVSS2, 57 P5.2/XT2IN, 58 P5.3/XT2OUT, 59 SBWTCK/TEST, 60 PJ.0/TDO, 61 PJ.1/TDI/TCLK, 62 PJ.2/TMS, 63 PJ.3/TCK, 64 ~{{RST}/NMI/SBWTDIO}

## MSP430F5310IRGZ
designator *  value MSP430F5310IRGZ  Reference: U
ki_keywords: TI MSP430 16-bit mixed signal microcontroller; ki_description: 32kB Flash, 6kB RAM, QFN-48; ki_fp_filters: Texas*S?PVQFN*; Footprint: Package_DFN_QFN:Texas_S-PVQFN-N48_EP5.15x5.15mm; Datasheet: http://www.ti.com/lit/ds/symlink/msp430f5310.pdf
pins: 1 P6.0/A0/CB0, 2 P6.1/A1/CB1, 3 P6.2/A2/CB2, 4 P6.3/A3/CB3, 5 P5.0/A8/VeREF+, 6 P5.1/A9/VeREF-, 7 AVCC1, 8 P5.4/XIN, 9 P5.5/XOUT, 10 AVSS1, 11 DVCC1, 12 DVSS1, 13 VCORE, 14 ACLK/TA0CLK/P1.0, 15 TA0.0/P1.1, 16 TA0.1/P1.2, 17 TA0.2/P1.3, 18 TA0.3/P1.4, 19 TA0.4/P1.5, 20 CBOUT/TA1CLK/P1.6, 21 TA1.0/P1.7, 22 TA1.1/P2.0, 23 PJ.0/TDO, 24 PJ.1/TDI/TCLK, 25 PJ.2/TMS, 26 PJ.3/TCK, 27 DVSS2, 28 DVCC2, 29 PM_UCB1STE/PM_UCA1CLK/P4.0, 30 PM_UCB1SIMO/PM_UCB1SDA/P4.1, 31 PM_UCB1SOMI/PM_UCB1SCL/P4.2, 32 PM_UCB1CLK/PM_UCA1STE/P4.3, 33 PM_UCA1TXD/PM_UCA1SIMO/P4.4, 34 PM_UCA1RXD/PM_UCA1SOMI/P4.5, 35 PM_NONE/P4.6, 36 PM_NONE/P4.7, 37 VSSU, 38 PU.0, 40 PU.1, 41 LDOI, 42 LDOO, 44 AVSS2, 45 P5.2/XT2IN, 46 P5.3/XT2OUT, 47 SBWTCK/TEST, 48 ~{{RST}/NMI/SBWTDIO}

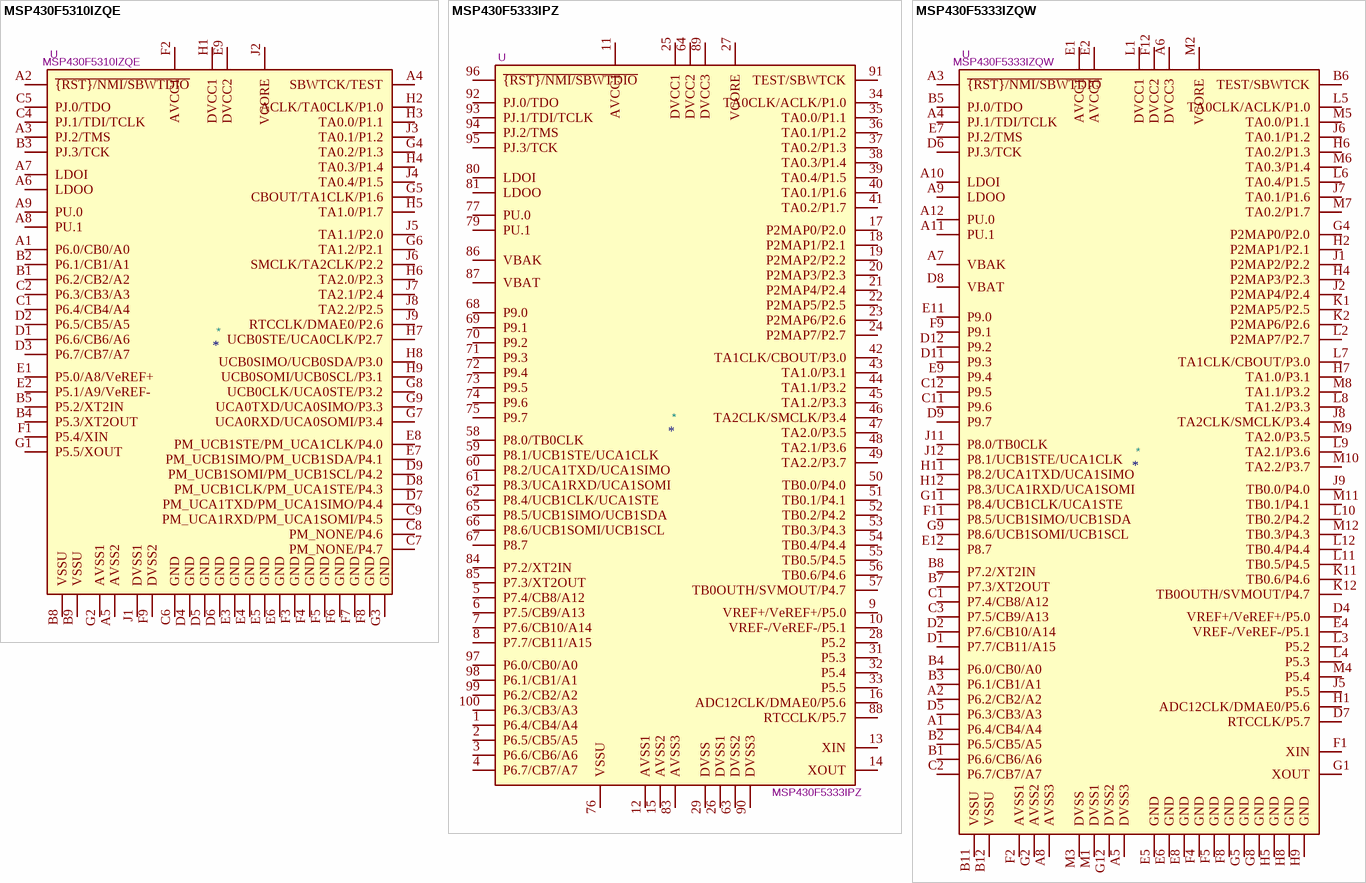
[diagram p12: symbols MSP430F5310IZQE to MSP430F5333IZQW]

## MSP430F5310IZQE
designator *  value MSP430F5310IZQE  Reference: U
ki_keywords: TI MSP430 16-bit mixed signal microcontroller; ki_description: 32kB Flash, 6kB RAM, BGA-80; ki_fp_filters: Texas*MicroStar*Junior*BGA*5.0x5.0mm*Layout9x9*P0.5mm*; Footprint: Package_BGA:Texas_MicroStar_Junior_BGA-80_5.0x5.0mm_Layout9x9_P0.5mm; Datasheet: http://www.ti.com/lit/ds/symlink/msp430f5310.pdf
pins: A1 P6.0/CB0/A0, A2 ~{{RST}/NMI/SBWTDIO}, A3 PJ.2/TMS, A4 SBWTCK/TEST, A5 AVSS2, A6 LDOO, A7 LDOI, A8 PU.1, A9 PU.0, B1 P6.2/CB2/A2, B2 P6.1/CB1/A1, B3 PJ.3/TCK, B4 P5.3/XT2OUT, B5 P5.2/XT2IN, B8 VSSU, B9 VSSU, C1 P6.4/CB4/A4, C2 P6.3/CB3/A3, C4 PJ.1/TDI/TCLK, C5 PJ.0/TDO, C6 GND, C7 PM_NONE/P4.7, C8 PM_NONE/P4.6, C9 PM_UCA1RXD/PM_UCA1SOMI/P4.5, D1 P6.6/CB6/A6, D2 P6.5/CB5/A5, D3 P6.7/CB7/A7, D4 GND, D5 GND, D6 GND, D7 PM_UCA1TXD/PM_UCA1SIMO/P4.4, D8 PM_UCB1CLK/PM_UCA1STE/P4.3, D9 PM_UCB1SOMI/PM_UCB1SCL/P4.2, E1 P5.0/A8/VeREF+, E2 P5.1/A9/VeREF-, E3 GND, E4 GND, E5 GND, E6 GND, E7 PM_UCB1SIMO/PM_UCB1SDA/P4.1, E8 PM_UCB1STE/PM_UCA1CLK/P4.0, E9 DVCC2, F1 P5.4/XIN, F2 AVCC1, F3 GND, F4 GND, F5 GND, F6 GND, F7 GND, F8 GND, F9 DVSS2, G1 P5.5/XOUT, G2 AVSS1, G3 GND, G4 TA0.2/P1.3, G5 CBOUT/TA1CLK/P1.6, G6 TA1.2/P2.1, G7 UCA0RXD/UCA0SOMI/P3.4, G8 UCB0CLK/UCA0STE/P3.2, G9 UCA0TXD/UCA0SIMO/P3.3, H1 DVCC1, H2 ACLK/TA0CLK/P1.0, H3 TA0.0/P1.1, H4 TA0.3/P1.4, H5 TA1.0/P1.7, H6 TA2.0/P2.3, H7 UCB0STE/UCA0CLK/P2.7, H8 UCB0SIMO/UCB0SDA/P3.0, H9 UCB0SOMI/UCB0SCL/P3.1, J1 DVSS1, J2 VCORE, J3 TA0.1/P1.2, J4 TA0.4/P1.5, J5 TA1.1/P2.0, J6 SMCLK/TA2CLK/P2.2, J7 TA2.1/P2.4, J8 TA2.2/P2.5, J9 RTCCLK/DMAE0/P2.6

## MSP430F5333IPZ
designator *  value MSP430F5333IPZ  Reference: U
ki_keywords: TI MSP430 16-bit mixed signal microcontroller; ki_description: 128kB Flash, 10kB RAM, LQFP-100; ki_fp_filters: LQFP*14x14mm*P0.5mm*; Footprint: Package_QFP:LQFP-100_14x14mm_P0.5mm; Datasheet: http://www.ti.com/lit/ds/symlink/msp430f5333.pdf
pins: 1 P6.4/CB4/A4, 2 P6.5/CB5/A5, 3 P6.6/CB6/A6, 4 P6.7/CB7/A7, 5 P7.4/CB8/A12, 6 P7.5/CB9/A13, 7 P7.6/CB10/A14, 8 P7.7/CB11/A15, 9 VREF+/VeREF+/P5.0, 10 VREF-/VeREF-/P5.1, 11 AVCC1, 12 AVSS1, 13 XIN, 14 XOUT, 15 AVSS2, 16 ADC12CLK/DMAE0/P5.6, 17 P2MAP0/P2.0, 18 P2MAP1/P2.1, 19 P2MAP2/P2.2, 20 P2MAP3/P2.3, 21 P2MAP4/P2.4, 22 P2MAP5/P2.5, 23 P2MAP6/P2.6, 24 P2MAP7/P2.7, 25 DVCC1, 26 DVSS1, 27 VCORE, 28 P5.2, 29 DVSS, 31 P5.3, 32 P5.4, 33 P5.5, 34 TA0CLK/ACLK/P1.0, 35 TA0.0/P1.1, 36 TA0.1/P1.2, 37 TA0.2/P1.3, 38 TA0.3/P1.4, 39 TA0.4/P1.5, 40 TA0.1/P1.6, 41 TA0.2/P1.7, 42 TA1CLK/CBOUT/P3.0, 43 TA1.0/P3.1, 44 TA1.1/P3.2, 45 TA1.2/P3.3, 46 TA2CLK/SMCLK/P3.4, 47 TA2.0/P3.5, 48 TA2.1/P3.6, 49 TA2.2/P3.7, 50 TB0.0/P4.0, 51 TB0.1/P4.1, 52 TB0.2/P4.2, 53 TB0.3/P4.3, 54 TB0.4/P4.4, 55 TB0.5/P4.5, 56 TB0.6/P4.6, 57 TB0OUTH/SVMOUT/P4.7, 58 P8.0/TB0CLK, 59 P8.1/UCB1STE/UCA1CLK, 60 P8.2/UCA1TXD/UCA1SIMO, 61 P8.3/UCA1RXD/UCA1SOMI, 62 P8.4/UCB1CLK/UCA1STE, 63 DVSS2, 64 DVCC2, 65 P8.5/UCB1SIMO/UCB1SDA, 66 P8.6/UCB1SOMI/UCB1SCL, 67 P8.7, 68 P9.0, 69 P9.1, 70 P9.2, 71 P9.3, 72 P9.4, 73 P9.5, 74 P9.6, 75 P9.7, 76 VSSU, 77 PU.0, 79 PU.1, 80 LDOI, 81 LDOO, 83 AVSS3, 84 P7.2/XT2IN, 85 P7.3/XT2OUT, 86 VBAK, 87 VBAT, 88 RTCCLK/P5.7, 89 DVCC3, 90 DVSS3, 91 TEST/SBWTCK, 92 PJ.0/TDO, 93 PJ.1/TDI/TCLK, 94 PJ.2/TMS, 95 PJ.3/TCK, 96 ~{{RST}/NMI/SBWTDIO}, 97 P6.0/CB0/A0, 98 P6.1/CB1/A1, 99 P6.2/CB2/A2, 100 P6.3/CB3/A3

## MSP430F5333IZQW
designator *  value MSP430F5333IZQW  Reference: U
ki_keywords: TI MSP430 16-bit mixed signal microcontroller; ki_description: 128kB Flash, 10kB RAM, BGA-113; ki_fp_filters: Texas*MicroStar*Junior*BGA*7.0x7.0mm*Layout12x12*P0.5mm*; Footprint: Package_BGA:Texas_MicroStar_Junior_BGA-113_7.0x7.0mm_Layout12x12_P0.5mm; Datasheet: http://www.ti.com/lit/ds/symlink/msp430f5333.pdf
pins: A1 P6.4/CB4/A4, A2 P6.2/CB2/A2, A3 ~{{RST}/NMI/SBWTDIO}, A4 PJ.1/TDI/TCLK, A5 DVSS3, A6 DVCC3, A7 VBAK, A8 AVSS3, A9 LDOO, A10 LDOI, A11 PU.1, A12 PU.0, B1 P6.6/CB6/A6, B2 P6.5/CB5/A5, B3 P6.1/CB1/A1, B4 P6.0/CB0/A0, B5 PJ.0/TDO, B6 TEST/SBWTCK, B7 P7.3/XT2OUT, B8 P7.2/XT2IN, B11 VSSU, B12 VSSU, C1 P7.4/CB8/A12, C2 P6.7/CB7/A7, C3 P7.5/CB9/A13, C11 P9.6, C12 P9.5, D1 P7.7/CB11/A15, D2 P7.6/CB10/A14, D4 VREF+/VeREF+/P5.0, D5 P6.3/CB3/A3, D6 PJ.3/TCK, D7 RTCCLK/P5.7, D8 VBAT, D9 P9.7, D11 P9.3, D12 P9.2, E1 AVCC1, E2 AVCC1, E4 VREF-/VeREF-/P5.1, E5 GND, E6 GND, E7 PJ.2/TMS, E8 GND, E9 P9.4, E11 P9.0, E12 P8.7, F1 XIN, F2 AVSS1, F4 GND, F5 GND, F8 GND, F9 P9.1, F11 P8.5/UCB1SIMO/UCB1SDA, F12 DVCC2, G1 XOUT, G2 AVSS2, G4 P2MAP0/P2.0, G5 GND, G8 GND, G9 P8.6/UCB1SOMI/UCB1SCL, G11 P8.4/UCB1CLK/UCA1STE, G12 DVSS2, H1 ADC12CLK/DMAE0/P5.6, H2 P2MAP1/P2.1, H4 P2MAP3/P2.3, H5 GND, H6 TA0.2/P1.3, H7 TA1.0/P3.1, H8 GND, H9 GND, H11 P8.2/UCA1TXD/UCA1SIMO, H12 P8.3/UCA1RXD/UCA1SOMI, J1 P2MAP2/P2.2, J2 P2MAP4/P2.4, J5 P5.5, J6 TA0.1/P1.2, J7 TA0.1/P1.6, J8 TA2CLK/SMCLK/P3.4, J9 TB0.0/P4.0, J11 P8.0/TB0CLK, J12 P8.1/UCB1STE/UCA1CLK, K1 P2MAP5/P2.5, K2 P2MAP6/P2.6, K11 TB0.6/P4.6, K12 TB0OUTH/SVMOUT/P4.7, L1 DVCC1, L2 P2MAP7/P2.7, L3 P5.2, L4 P5.3, L5 TA0CLK/ACLK/P1.0, L6 TA0.4/P1.5, L7 TA1CLK/CBOUT/P3.0, L8 TA1.2/P3.3, L9 TA2.1/P3.6, L10 TB0.2/P4.2, L11 TB0.5/P4.5, L12 TB0.4/P4.4, M1 DVSS1, M2 VCORE, M3 DVSS, M4 P5.4, M5 TA0.0/P1.1, M6 TA0.3/P1.4, M7 TA0.2/P1.7, M8 TA1.1/P3.2, M9 TA2.0/P3.5, M10 TA2.2/P3.7, M11 TB0.1/P4.1, M12 TB0.3/P4.3

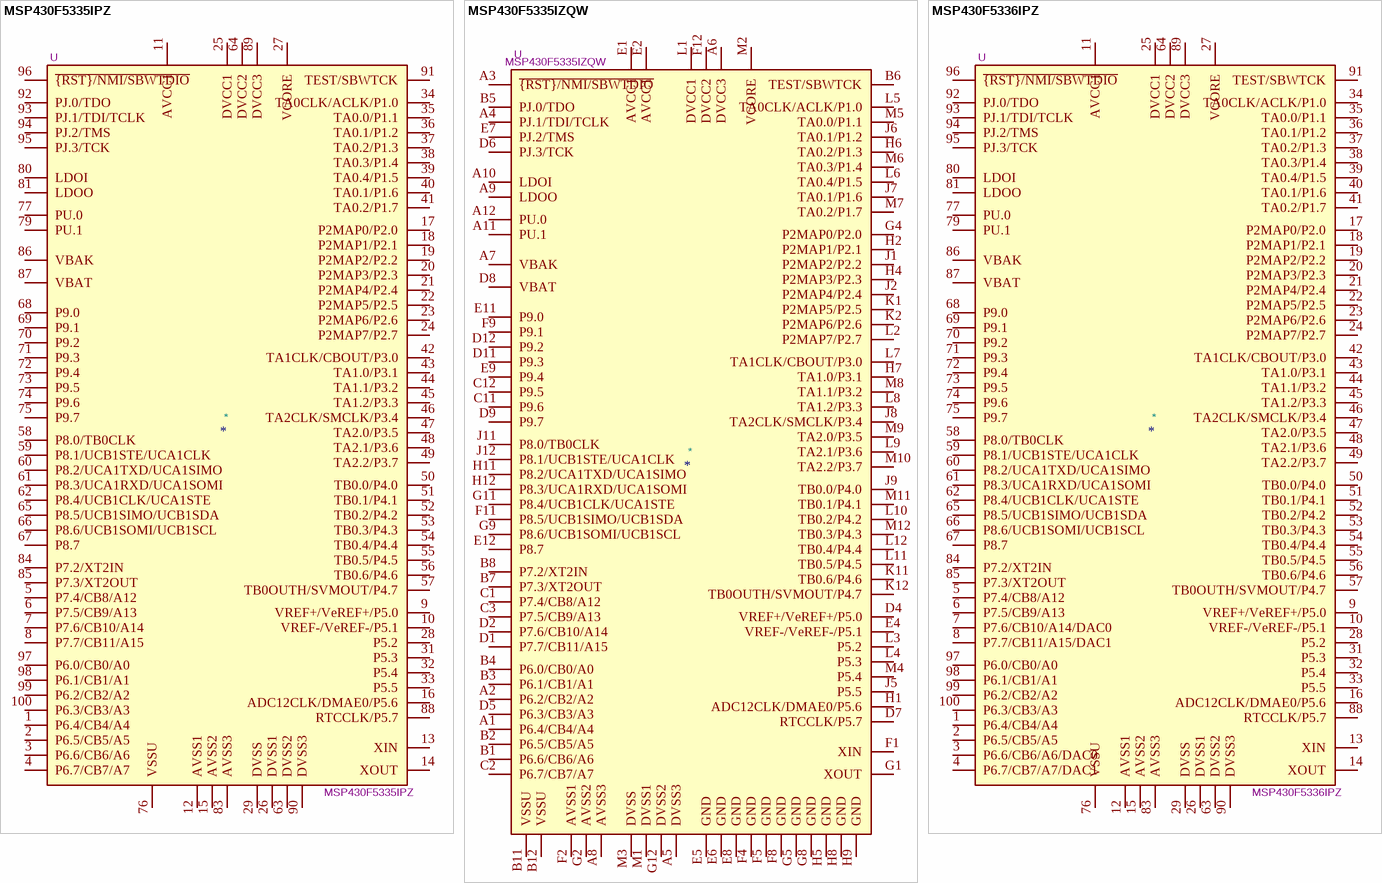
[diagram p13: symbols MSP430F5335IPZ to MSP430F5336IPZ]

## MSP430F5335IPZ
designator *  value MSP430F5335IPZ  Reference: U
ki_keywords: TI MSP430 16-bit mixed signal microcontroller; ki_description: 256kB Flash, 18kB RAM, LQFP-100; ki_fp_filters: LQFP*14x14mm*P0.5mm*; Footprint: Package_QFP:LQFP-100_14x14mm_P0.5mm; Datasheet: http://www.ti.com/lit/ds/symlink/msp430f5335.pdf
pins: 1 P6.4/CB4/A4, 2 P6.5/CB5/A5, 3 P6.6/CB6/A6, 4 P6.7/CB7/A7, 5 P7.4/CB8/A12, 6 P7.5/CB9/A13, 7 P7.6/CB10/A14, 8 P7.7/CB11/A15, 9 VREF+/VeREF+/P5.0, 10 VREF-/VeREF-/P5.1, 11 AVCC1, 12 AVSS1, 13 XIN, 14 XOUT, 15 AVSS2, 16 ADC12CLK/DMAE0/P5.6, 17 P2MAP0/P2.0, 18 P2MAP1/P2.1, 19 P2MAP2/P2.2, 20 P2MAP3/P2.3, 21 P2MAP4/P2.4, 22 P2MAP5/P2.5, 23 P2MAP6/P2.6, 24 P2MAP7/P2.7, 25 DVCC1, 26 DVSS1, 27 VCORE, 28 P5.2, 29 DVSS, 31 P5.3, 32 P5.4, 33 P5.5, 34 TA0CLK/ACLK/P1.0, 35 TA0.0/P1.1, 36 TA0.1/P1.2, 37 TA0.2/P1.3, 38 TA0.3/P1.4, 39 TA0.4/P1.5, 40 TA0.1/P1.6, 41 TA0.2/P1.7, 42 TA1CLK/CBOUT/P3.0, 43 TA1.0/P3.1, 44 TA1.1/P3.2, 45 TA1.2/P3.3, 46 TA2CLK/SMCLK/P3.4, 47 TA2.0/P3.5, 48 TA2.1/P3.6, 49 TA2.2/P3.7, 50 TB0.0/P4.0, 51 TB0.1/P4.1, 52 TB0.2/P4.2, 53 TB0.3/P4.3, 54 TB0.4/P4.4, 55 TB0.5/P4.5, 56 TB0.6/P4.6, 57 TB0OUTH/SVMOUT/P4.7, 58 P8.0/TB0CLK, 59 P8.1/UCB1STE/UCA1CLK, 60 P8.2/UCA1TXD/UCA1SIMO, 61 P8.3/UCA1RXD/UCA1SOMI, 62 P8.4/UCB1CLK/UCA1STE, 63 DVSS2, 64 DVCC2, 65 P8.5/UCB1SIMO/UCB1SDA, 66 P8.6/UCB1SOMI/UCB1SCL, 67 P8.7, 68 P9.0, 69 P9.1, 70 P9.2, 71 P9.3, 72 P9.4, 73 P9.5, 74 P9.6, 75 P9.7, 76 VSSU, 77 PU.0, 79 PU.1, 80 LDOI, 81 LDOO, 83 AVSS3, 84 P7.2/XT2IN, 85 P7.3/XT2OUT, 86 VBAK, 87 VBAT, 88 RTCCLK/P5.7, 89 DVCC3, 90 DVSS3, 91 TEST/SBWTCK, 92 PJ.0/TDO, 93 PJ.1/TDI/TCLK, 94 PJ.2/TMS, 95 PJ.3/TCK, 96 ~{{RST}/NMI/SBWTDIO}, 97 P6.0/CB0/A0, 98 P6.1/CB1/A1, 99 P6.2/CB2/A2, 100 P6.3/CB3/A3

## MSP430F5335IZQW
designator *  value MSP430F5335IZQW  Reference: U
ki_keywords: TI MSP430 16-bit mixed signal microcontroller; ki_description: 256kB Flash, 18kB RAM, BGA-113; ki_fp_filters: Texas*MicroStar*Junior*BGA*7.0x7.0mm*Layout12x12*P0.5mm*; Footprint: Package_BGA:Texas_MicroStar_Junior_BGA-113_7.0x7.0mm_Layout12x12_P0.5mm; Datasheet: http://www.ti.com/lit/ds/symlink/msp430f5335.pdf
pins: A1 P6.4/CB4/A4, A2 P6.2/CB2/A2, A3 ~{{RST}/NMI/SBWTDIO}, A4 PJ.1/TDI/TCLK, A5 DVSS3, A6 DVCC3, A7 VBAK, A8 AVSS3, A9 LDOO, A10 LDOI, A11 PU.1, A12 PU.0, B1 P6.6/CB6/A6, B2 P6.5/CB5/A5, B3 P6.1/CB1/A1, B4 P6.0/CB0/A0, B5 PJ.0/TDO, B6 TEST/SBWTCK, B7 P7.3/XT2OUT, B8 P7.2/XT2IN, B11 VSSU, B12 VSSU, C1 P7.4/CB8/A12, C2 P6.7/CB7/A7, C3 P7.5/CB9/A13, C11 P9.6, C12 P9.5, D1 P7.7/CB11/A15, D2 P7.6/CB10/A14, D4 VREF+/VeREF+/P5.0, D5 P6.3/CB3/A3, D6 PJ.3/TCK, D7 RTCCLK/P5.7, D8 VBAT, D9 P9.7, D11 P9.3, D12 P9.2, E1 AVCC1, E2 AVCC1, E4 VREF-/VeREF-/P5.1, E5 GND, E6 GND, E7 PJ.2/TMS, E8 GND, E9 P9.4, E11 P9.0, E12 P8.7, F1 XIN, F2 AVSS1, F4 GND, F5 GND, F8 GND, F9 P9.1, F11 P8.5/UCB1SIMO/UCB1SDA, F12 DVCC2, G1 XOUT, G2 AVSS2, G4 P2MAP0/P2.0, G5 GND, G8 GND, G9 P8.6/UCB1SOMI/UCB1SCL, G11 P8.4/UCB1CLK/UCA1STE, G12 DVSS2, H1 ADC12CLK/DMAE0/P5.6, H2 P2MAP1/P2.1, H4 P2MAP3/P2.3, H5 GND, H6 TA0.2/P1.3, H7 TA1.0/P3.1, H8 GND, H9 GND, H11 P8.2/UCA1TXD/UCA1SIMO, H12 P8.3/UCA1RXD/UCA1SOMI, J1 P2MAP2/P2.2, J2 P2MAP4/P2.4, J5 P5.5, J6 TA0.1/P1.2, J7 TA0.1/P1.6, J8 TA2CLK/SMCLK/P3.4, J9 TB0.0/P4.0, J11 P8.0/TB0CLK, J12 P8.1/UCB1STE/UCA1CLK, K1 P2MAP5/P2.5, K2 P2MAP6/P2.6, K11 TB0.6/P4.6, K12 TB0OUTH/SVMOUT/P4.7, L1 DVCC1, L2 P2MAP7/P2.7, L3 P5.2, L4 P5.3, L5 TA0CLK/ACLK/P1.0, L6 TA0.4/P1.5, L7 TA1CLK/CBOUT/P3.0, L8 TA1.2/P3.3, L9 TA2.1/P3.6, L10 TB0.2/P4.2, L11 TB0.5/P4.5, L12 TB0.4/P4.4, M1 DVSS1, M2 VCORE, M3 DVSS, M4 P5.4, M5 TA0.0/P1.1, M6 TA0.3/P1.4, M7 TA0.2/P1.7, M8 TA1.1/P3.2, M9 TA2.0/P3.5, M10 TA2.2/P3.7, M11 TB0.1/P4.1, M12 TB0.3/P4.3

## MSP430F5336IPZ
designator *  value MSP430F5336IPZ  Reference: U
ki_keywords: TI MSP430 16-bit mixed signal microcontroller; ki_description: 128kB Flash, 18kB RAM, LQFP-100; ki_fp_filters: LQFP*14x14mm*P0.5mm*; Footprint: Package_QFP:LQFP-100_14x14mm_P0.5mm; Datasheet: http://www.ti.com/lit/ds/symlink/msp430f5336.pdf
pins: 1 P6.4/CB4/A4, 2 P6.5/CB5/A5, 3 P6.6/CB6/A6/DAC0, 4 P6.7/CB7/A7/DAC1, 5 P7.4/CB8/A12, 6 P7.5/CB9/A13, 7 P7.6/CB10/A14/DAC0, 8 P7.7/CB11/A15/DAC1, 9 VREF+/VeREF+/P5.0, 10 VREF-/VeREF-/P5.1, 11 AVCC1, 12 AVSS1, 13 XIN, 14 XOUT, 15 AVSS2, 16 ADC12CLK/DMAE0/P5.6, 17 P2MAP0/P2.0, 18 P2MAP1/P2.1, 19 P2MAP2/P2.2, 20 P2MAP3/P2.3, 21 P2MAP4/P2.4, 22 P2MAP5/P2.5, 23 P2MAP6/P2.6, 24 P2MAP7/P2.7, 25 DVCC1, 26 DVSS1, 27 VCORE, 28 P5.2, 29 DVSS, 31 P5.3, 32 P5.4, 33 P5.5, 34 TA0CLK/ACLK/P1.0, 35 TA0.0/P1.1, 36 TA0.1/P1.2, 37 TA0.2/P1.3, 38 TA0.3/P1.4, 39 TA0.4/P1.5, 40 TA0.1/P1.6, 41 TA0.2/P1.7, 42 TA1CLK/CBOUT/P3.0, 43 TA1.0/P3.1, 44 TA1.1/P3.2, 45 TA1.2/P3.3, 46 TA2CLK/SMCLK/P3.4, 47 TA2.0/P3.5, 48 TA2.1/P3.6, 49 TA2.2/P3.7, 50 TB0.0/P4.0, 51 TB0.1/P4.1, 52 TB0.2/P4.2, 53 TB0.3/P4.3, 54 TB0.4/P4.4, 55 TB0.5/P4.5, 56 TB0.6/P4.6, 57 TB0OUTH/SVMOUT/P4.7, 58 P8.0/TB0CLK, 59 P8.1/UCB1STE/UCA1CLK, 60 P8.2/UCA1TXD/UCA1SIMO, 61 P8.3/UCA1RXD/UCA1SOMI, 62 P8.4/UCB1CLK/UCA1STE, 63 DVSS2, 64 DVCC2, 65 P8.5/UCB1SIMO/UCB1SDA, 66 P8.6/UCB1SOMI/UCB1SCL, 67 P8.7, 68 P9.0, 69 P9.1, 70 P9.2, 71 P9.3, 72 P9.4, 73 P9.5, 74 P9.6, 75 P9.7, 76 VSSU, 77 PU.0, 79 PU.1, 80 LDOI, 81 LDOO, 83 AVSS3, 84 P7.2/XT2IN, 85 P7.3/XT2OUT, 86 VBAK, 87 VBAT, 88 RTCCLK/P5.7, 89 DVCC3, 90 DVSS3, 91 TEST/SBWTCK, 92 PJ.0/TDO, 93 PJ.1/TDI/TCLK, 94 PJ.2/TMS, 95 PJ.3/TCK, 96 ~{{RST}/NMI/SBWTDIO}, 97 P6.0/CB0/A0, 98 P6.1/CB1/A1, 99 P6.2/CB2/A2, 100 P6.3/CB3/A3

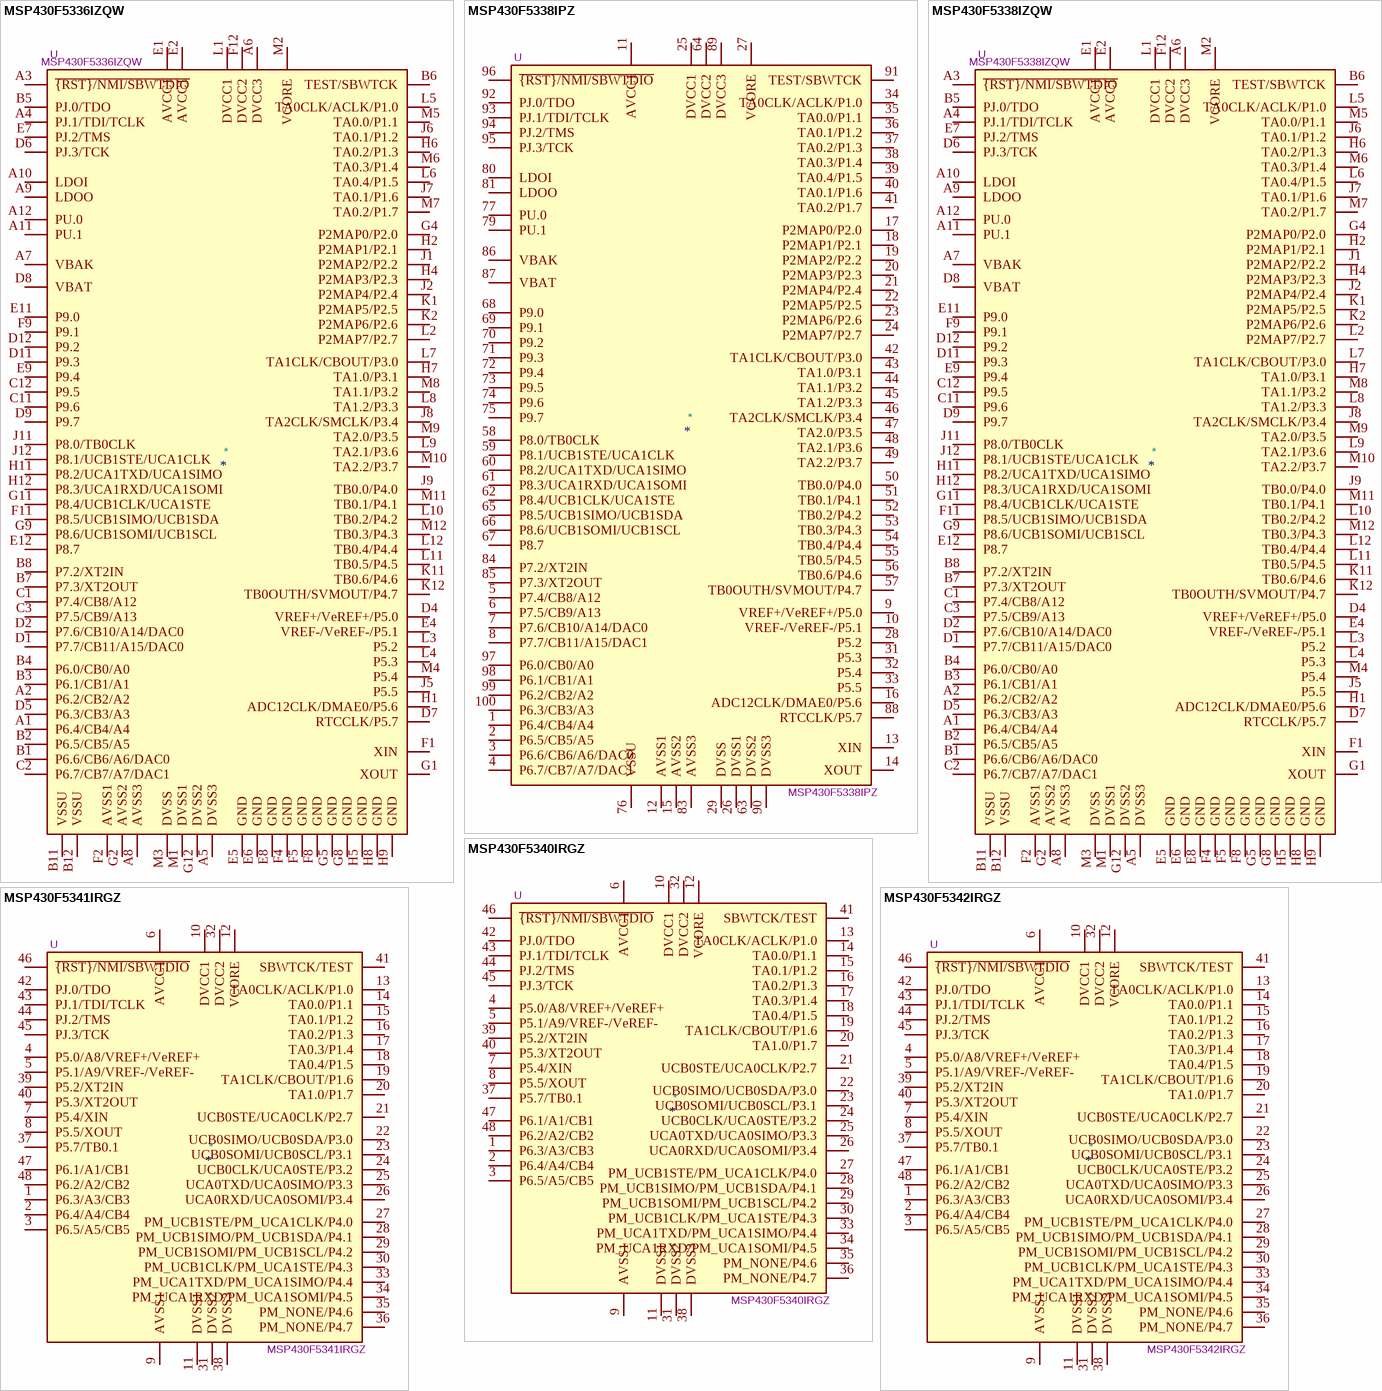
[diagram p14: symbols MSP430F5336IZQW to MSP430F5342IRGZ]

## MSP430F5336IZQW
designator *  value MSP430F5336IZQW  Reference: U
ki_keywords: TI MSP430 16-bit mixed signal microcontroller; ki_description: 128kB Flash, 18kB RAM, BGA-113; ki_fp_filters: Texas*MicroStar*Junior*BGA*7.0x7.0mm*Layout12x12*P0.5mm*; Footprint: Package_BGA:Texas_MicroStar_Junior_BGA-113_7.0x7.0mm_Layout12x12_P0.5mm; Datasheet: http://www.ti.com/lit/ds/symlink/msp430f5336.pdf
pins: A1 P6.4/CB4/A4, A2 P6.2/CB2/A2, A3 ~{{RST}/NMI/SBWTDIO}, A4 PJ.1/TDI/TCLK, A5 DVSS3, A6 DVCC3, A7 VBAK, A8 AVSS3, A9 LDOO, A10 LDOI, A11 PU.1, A12 PU.0, B1 P6.6/CB6/A6/DAC0, B2 P6.5/CB5/A5, B3 P6.1/CB1/A1, B4 P6.0/CB0/A0, B5 PJ.0/TDO, B6 TEST/SBWTCK, B7 P7.3/XT2OUT, B8 P7.2/XT2IN, B11 VSSU, B12 VSSU, C1 P7.4/CB8/A12, C2 P6.7/CB7/A7/DAC1, C3 P7.5/CB9/A13, C11 P9.6, C12 P9.5, D1 P7.7/CB11/A15/DAC0, D2 P7.6/CB10/A14/DAC0, D4 VREF+/VeREF+/P5.0, D5 P6.3/CB3/A3, D6 PJ.3/TCK, D7 RTCCLK/P5.7, D8 VBAT, D9 P9.7, D11 P9.3, D12 P9.2, E1 AVCC1, E2 AVCC1, E4 VREF-/VeREF-/P5.1, E5 GND, E6 GND, E7 PJ.2/TMS, E8 GND, E9 P9.4, E11 P9.0, E12 P8.7, F1 XIN, F2 AVSS1, F4 GND, F5 GND, F8 GND, F9 P9.1, F11 P8.5/UCB1SIMO/UCB1SDA, F12 DVCC2, G1 XOUT, G2 AVSS2, G4 P2MAP0/P2.0, G5 GND, G8 GND, G9 P8.6/UCB1SOMI/UCB1SCL, G11 P8.4/UCB1CLK/UCA1STE, G12 DVSS2, H1 ADC12CLK/DMAE0/P5.6, H2 P2MAP1/P2.1, H4 P2MAP3/P2.3, H5 GND, H6 TA0.2/P1.3, H7 TA1.0/P3.1, H8 GND, H9 GND, H11 P8.2/UCA1TXD/UCA1SIMO, H12 P8.3/UCA1RXD/UCA1SOMI, J1 P2MAP2/P2.2, J2 P2MAP4/P2.4, J5 P5.5, J6 TA0.1/P1.2, J7 TA0.1/P1.6, J8 TA2CLK/SMCLK/P3.4, J9 TB0.0/P4.0, J11 P8.0/TB0CLK, J12 P8.1/UCB1STE/UCA1CLK, K1 P2MAP5/P2.5, K2 P2MAP6/P2.6, K11 TB0.6/P4.6, K12 TB0OUTH/SVMOUT/P4.7, L1 DVCC1, L2 P2MAP7/P2.7, L3 P5.2, L4 P5.3, L5 TA0CLK/ACLK/P1.0, L6 TA0.4/P1.5, L7 TA1CLK/CBOUT/P3.0, L8 TA1.2/P3.3, L9 TA2.1/P3.6, L10 TB0.2/P4.2, L11 TB0.5/P4.5, L12 TB0.4/P4.4, M1 DVSS1, M2 VCORE, M3 DVSS, M4 P5.4, M5 TA0.0/P1.1, M6 TA0.3/P1.4, M7 TA0.2/P1.7, M8 TA1.1/P3.2, M9 TA2.0/P3.5, M10 TA2.2/P3.7, M11 TB0.1/P4.1, M12 TB0.3/P4.3

## MSP430F5338IPZ
designator *  value MSP430F5338IPZ  Reference: U
ki_keywords: TI MSP430 16-bit mixed signal microcontroller; ki_description: 256kB Flash, 18kB RAM, LQFP-100; ki_fp_filters: LQFP*14x14mm*P0.5mm*; Footprint: Package_QFP:LQFP-100_14x14mm_P0.5mm; Datasheet: http://www.ti.com/lit/ds/symlink/msp430f5338.pdf
pins: 1 P6.4/CB4/A4, 2 P6.5/CB5/A5, 3 P6.6/CB6/A6/DAC0, 4 P6.7/CB7/A7/DAC1, 5 P7.4/CB8/A12, 6 P7.5/CB9/A13, 7 P7.6/CB10/A14/DAC0, 8 P7.7/CB11/A15/DAC1, 9 VREF+/VeREF+/P5.0, 10 VREF-/VeREF-/P5.1, 11 AVCC1, 12 AVSS1, 13 XIN, 14 XOUT, 15 AVSS2, 16 ADC12CLK/DMAE0/P5.6, 17 P2MAP0/P2.0, 18 P2MAP1/P2.1, 19 P2MAP2/P2.2, 20 P2MAP3/P2.3, 21 P2MAP4/P2.4, 22 P2MAP5/P2.5, 23 P2MAP6/P2.6, 24 P2MAP7/P2.7, 25 DVCC1, 26 DVSS1, 27 VCORE, 28 P5.2, 29 DVSS, 31 P5.3, 32 P5.4, 33 P5.5, 34 TA0CLK/ACLK/P1.0, 35 TA0.0/P1.1, 36 TA0.1/P1.2, 37 TA0.2/P1.3, 38 TA0.3/P1.4, 39 TA0.4/P1.5, 40 TA0.1/P1.6, 41 TA0.2/P1.7, 42 TA1CLK/CBOUT/P3.0, 43 TA1.0/P3.1, 44 TA1.1/P3.2, 45 TA1.2/P3.3, 46 TA2CLK/SMCLK/P3.4, 47 TA2.0/P3.5, 48 TA2.1/P3.6, 49 TA2.2/P3.7, 50 TB0.0/P4.0, 51 TB0.1/P4.1, 52 TB0.2/P4.2, 53 TB0.3/P4.3, 54 TB0.4/P4.4, 55 TB0.5/P4.5, 56 TB0.6/P4.6, 57 TB0OUTH/SVMOUT/P4.7, 58 P8.0/TB0CLK, 59 P8.1/UCB1STE/UCA1CLK, 60 P8.2/UCA1TXD/UCA1SIMO, 61 P8.3/UCA1RXD/UCA1SOMI, 62 P8.4/UCB1CLK/UCA1STE, 63 DVSS2, 64 DVCC2, 65 P8.5/UCB1SIMO/UCB1SDA, 66 P8.6/UCB1SOMI/UCB1SCL, 67 P8.7, 68 P9.0, 69 P9.1, 70 P9.2, 71 P9.3, 72 P9.4, 73 P9.5, 74 P9.6, 75 P9.7, 76 VSSU, 77 PU.0, 79 PU.1, 80 LDOI, 81 LDOO, 83 AVSS3, 84 P7.2/XT2IN, 85 P7.3/XT2OUT, 86 VBAK, 87 VBAT, 88 RTCCLK/P5.7, 89 DVCC3, 90 DVSS3, 91 TEST/SBWTCK, 92 PJ.0/TDO, 93 PJ.1/TDI/TCLK, 94 PJ.2/TMS, 95 PJ.3/TCK, 96 ~{{RST}/NMI/SBWTDIO}, 97 P6.0/CB0/A0, 98 P6.1/CB1/A1, 99 P6.2/CB2/A2, 100 P6.3/CB3/A3

## MSP430F5338IZQW
designator *  value MSP430F5338IZQW  Reference: U
ki_keywords: TI MSP430 16-bit mixed signal microcontroller; ki_description: 128kB Flash, 18kB RAM, BGA-113; ki_fp_filters: Texas*MicroStar*Junior*BGA*7.0x7.0mm*Layout12x12*P0.5mm*; Footprint: Package_BGA:Texas_MicroStar_Junior_BGA-113_7.0x7.0mm_Layout12x12_P0.5mm; Datasheet: http://www.ti.com/lit/ds/symlink/msp430f5338.pdf
pins: A1 P6.4/CB4/A4, A2 P6.2/CB2/A2, A3 ~{{RST}/NMI/SBWTDIO}, A4 PJ.1/TDI/TCLK, A5 DVSS3, A6 DVCC3, A7 VBAK, A8 AVSS3, A9 LDOO, A10 LDOI, A11 PU.1, A12 PU.0, B1 P6.6/CB6/A6/DAC0, B2 P6.5/CB5/A5, B3 P6.1/CB1/A1, B4 P6.0/CB0/A0, B5 PJ.0/TDO, B6 TEST/SBWTCK, B7 P7.3/XT2OUT, B8 P7.2/XT2IN, B11 VSSU, B12 VSSU, C1 P7.4/CB8/A12, C2 P6.7/CB7/A7/DAC1, C3 P7.5/CB9/A13, C11 P9.6, C12 P9.5, D1 P7.7/CB11/A15/DAC0, D2 P7.6/CB10/A14/DAC0, D4 VREF+/VeREF+/P5.0, D5 P6.3/CB3/A3, D6 PJ.3/TCK, D7 RTCCLK/P5.7, D8 VBAT, D9 P9.7, D11 P9.3, D12 P9.2, E1 AVCC1, E2 AVCC1, E4 VREF-/VeREF-/P5.1, E5 GND, E6 GND, E7 PJ.2/TMS, E8 GND, E9 P9.4, E11 P9.0, E12 P8.7, F1 XIN, F2 AVSS1, F4 GND, F5 GND, F8 GND, F9 P9.1, F11 P8.5/UCB1SIMO/UCB1SDA, F12 DVCC2, G1 XOUT, G2 AVSS2, G4 P2MAP0/P2.0, G5 GND, G8 GND, G9 P8.6/UCB1SOMI/UCB1SCL, G11 P8.4/UCB1CLK/UCA1STE, G12 DVSS2, H1 ADC12CLK/DMAE0/P5.6, H2 P2MAP1/P2.1, H4 P2MAP3/P2.3, H5 GND, H6 TA0.2/P1.3, H7 TA1.0/P3.1, H8 GND, H9 GND, H11 P8.2/UCA1TXD/UCA1SIMO, H12 P8.3/UCA1RXD/UCA1SOMI, J1 P2MAP2/P2.2, J2 P2MAP4/P2.4, J5 P5.5, J6 TA0.1/P1.2, J7 TA0.1/P1.6, J8 TA2CLK/SMCLK/P3.4, J9 TB0.0/P4.0, J11 P8.0/TB0CLK, J12 P8.1/UCB1STE/UCA1CLK, K1 P2MAP5/P2.5, K2 P2MAP6/P2.6, K11 TB0.6/P4.6, K12 TB0OUTH/SVMOUT/P4.7, L1 DVCC1, L2 P2MAP7/P2.7, L3 P5.2, L4 P5.3, L5 TA0CLK/ACLK/P1.0, L6 TA0.4/P1.5, L7 TA1CLK/CBOUT/P3.0, L8 TA1.2/P3.3, L9 TA2.1/P3.6, L10 TB0.2/P4.2, L11 TB0.5/P4.5, L12 TB0.4/P4.4, M1 DVSS1, M2 VCORE, M3 DVSS, M4 P5.4, M5 TA0.0/P1.1, M6 TA0.3/P1.4, M7 TA0.2/P1.7, M8 TA1.1/P3.2, M9 TA2.0/P3.5, M10 TA2.2/P3.7, M11 TB0.1/P4.1, M12 TB0.3/P4.3

## MSP430F5340IRGZ
designator *  value MSP430F5340IRGZ  Reference: U
ki_keywords: TI MSP430 16-bit mixed signal microcontroller; ki_description: 64kB Flash, 6kB RAM, QFN-48; ki_fp_filters: Texas*S?PVQFN*; Footprint: Package_DFN_QFN:Texas_S-PVQFN-N48_EP5.15x5.15mm; Datasheet: http://www.ti.com/lit/ds/symlink/msp430f5340.pdf
pins: 1 P6.3/A3/CB3, 2 P6.4/A4/CB4, 3 P6.5/A5/CB5, 4 P5.0/A8/VREF+/VeREF+, 5 P5.1/A9/VREF-/VeREF-, 6 AVCC1, 7 P5.4/XIN, 8 P5.5/XOUT, 9 AVSS1, 10 DVCC1, 11 DVSS1, 12 VCORE, 13 TA0CLK/ACLK/P1.0, 14 TA0.0/P1.1, 15 TA0.1/P1.2, 16 TA0.2/P1.3, 17 TA0.3/P1.4, 18 TA0.4/P1.5, 19 TA1CLK/CBOUT/P1.6, 20 TA1.0/P1.7, 21 UCB0STE/UCA0CLK/P2.7, 22 UCB0SIMO/UCB0SDA/P3.0, 23 UCB0SOMI/UCB0SCL/P3.1, 24 UCB0CLK/UCA0STE/P3.2, 25 UCA0TXD/UCA0SIMO/P3.3, 26 UCA0RXD/UCA0SOMI/P3.4, 27 PM_UCB1STE/PM_UCA1CLK/P4.0, 28 PM_UCB1SIMO/PM_UCB1SDA/P4.1, 29 PM_UCB1SOMI/PM_UCB1SCL/P4.2, 30 PM_UCB1CLK/PM_UCA1STE/P4.3, 31 DVSS2, 32 DVCC2, 33 PM_UCA1TXD/PM_UCA1SIMO/P4.4, 34 PM_UCA1RXD/PM_UCA1SOMI/P4.5, 35 PM_NONE/P4.6, 36 PM_NONE/P4.7, 37 P5.7/TB0.1, 38 DVSS3, 39 P5.2/XT2IN, 40 P5.3/XT2OUT, 41 SBWTCK/TEST, 42 PJ.0/TDO, 43 PJ.1/TDI/TCLK, 44 PJ.2/TMS, 45 PJ.3/TCK, 46 ~{{RST}/NMI/SBWTDIO}, 47 P6.1/A1/CB1, 48 P6.2/A2/CB2

## MSP430F5341IRGZ
designator *  value MSP430F5341IRGZ  Reference: U
ki_keywords: TI MSP430 16-bit mixed signal microcontroller; ki_description: 96kB Flash, 8kB RAM, QFN-48; ki_fp_filters: Texas*S?PVQFN*; Footprint: Package_DFN_QFN:Texas_S-PVQFN-N48_EP5.15x5.15mm; Datasheet: http://www.ti.com/lit/ds/symlink/msp430f5341.pdf
pins: 1 P6.3/A3/CB3, 2 P6.4/A4/CB4, 3 P6.5/A5/CB5, 4 P5.0/A8/VREF+/VeREF+, 5 P5.1/A9/VREF-/VeREF-, 6 AVCC1, 7 P5.4/XIN, 8 P5.5/XOUT, 9 AVSS1, 10 DVCC1, 11 DVSS1, 12 VCORE, 13 TA0CLK/ACLK/P1.0, 14 TA0.0/P1.1, 15 TA0.1/P1.2, 16 TA0.2/P1.3, 17 TA0.3/P1.4, 18 TA0.4/P1.5, 19 TA1CLK/CBOUT/P1.6, 20 TA1.0/P1.7, 21 UCB0STE/UCA0CLK/P2.7, 22 UCB0SIMO/UCB0SDA/P3.0, 23 UCB0SOMI/UCB0SCL/P3.1, 24 UCB0CLK/UCA0STE/P3.2, 25 UCA0TXD/UCA0SIMO/P3.3, 26 UCA0RXD/UCA0SOMI/P3.4, 27 PM_UCB1STE/PM_UCA1CLK/P4.0, 28 PM_UCB1SIMO/PM_UCB1SDA/P4.1, 29 PM_UCB1SOMI/PM_UCB1SCL/P4.2, 30 PM_UCB1CLK/PM_UCA1STE/P4.3, 31 DVSS2, 32 DVCC2, 33 PM_UCA1TXD/PM_UCA1SIMO/P4.4, 34 PM_UCA1RXD/PM_UCA1SOMI/P4.5, 35 PM_NONE/P4.6, 36 PM_NONE/P4.7, 37 P5.7/TB0.1, 38 DVSS3, 39 P5.2/XT2IN, 40 P5.3/XT2OUT, 41 SBWTCK/TEST, 42 PJ.0/TDO, 43 PJ.1/TDI/TCLK, 44 PJ.2/TMS, 45 PJ.3/TCK, 46 ~{{RST}/NMI/SBWTDIO}, 47 P6.1/A1/CB1, 48 P6.2/A2/CB2

## MSP430F5342IRGZ
designator *  value MSP430F5342IRGZ  Reference: U
ki_keywords: TI MSP430 16-bit mixed signal microcontroller; ki_description: 128kB Flash, 10kB RAM, QFN-48; ki_fp_filters: Texas*S?PVQFN*; Footprint: Package_DFN_QFN:Texas_S-PVQFN-N48_EP5.15x5.15mm; Datasheet: http://www.ti.com/lit/ds/symlink/msp430f5342.pdf
pins: 1 P6.3/A3/CB3, 2 P6.4/A4/CB4, 3 P6.5/A5/CB5, 4 P5.0/A8/VREF+/VeREF+, 5 P5.1/A9/VREF-/VeREF-, 6 AVCC1, 7 P5.4/XIN, 8 P5.5/XOUT, 9 AVSS1, 10 DVCC1, 11 DVSS1, 12 VCORE, 13 TA0CLK/ACLK/P1.0, 14 TA0.0/P1.1, 15 TA0.1/P1.2, 16 TA0.2/P1.3, 17 TA0.3/P1.4, 18 TA0.4/P1.5, 19 TA1CLK/CBOUT/P1.6, 20 TA1.0/P1.7, 21 UCB0STE/UCA0CLK/P2.7, 22 UCB0SIMO/UCB0SDA/P3.0, 23 UCB0SOMI/UCB0SCL/P3.1, 24 UCB0CLK/UCA0STE/P3.2, 25 UCA0TXD/UCA0SIMO/P3.3, 26 UCA0RXD/UCA0SOMI/P3.4, 27 PM_UCB1STE/PM_UCA1CLK/P4.0, 28 PM_UCB1SIMO/PM_UCB1SDA/P4.1, 29 PM_UCB1SOMI/PM_UCB1SCL/P4.2, 30 PM_UCB1CLK/PM_UCA1STE/P4.3, 31 DVSS2, 32 DVCC2, 33 PM_UCA1TXD/PM_UCA1SIMO/P4.4, 34 PM_UCA1RXD/PM_UCA1SOMI/P4.5, 35 PM_NONE/P4.6, 36 PM_NONE/P4.7, 37 P5.7/TB0.1, 38 DVSS3, 39 P5.2/XT2IN, 40 P5.3/XT2OUT, 41 SBWTCK/TEST, 42 PJ.0/TDO, 43 PJ.1/TDI/TCLK, 44 PJ.2/TMS, 45 PJ.3/TCK, 46 ~{{RST}/NMI/SBWTDIO}, 47 P6.1/A1/CB1, 48 P6.2/A2/CB2

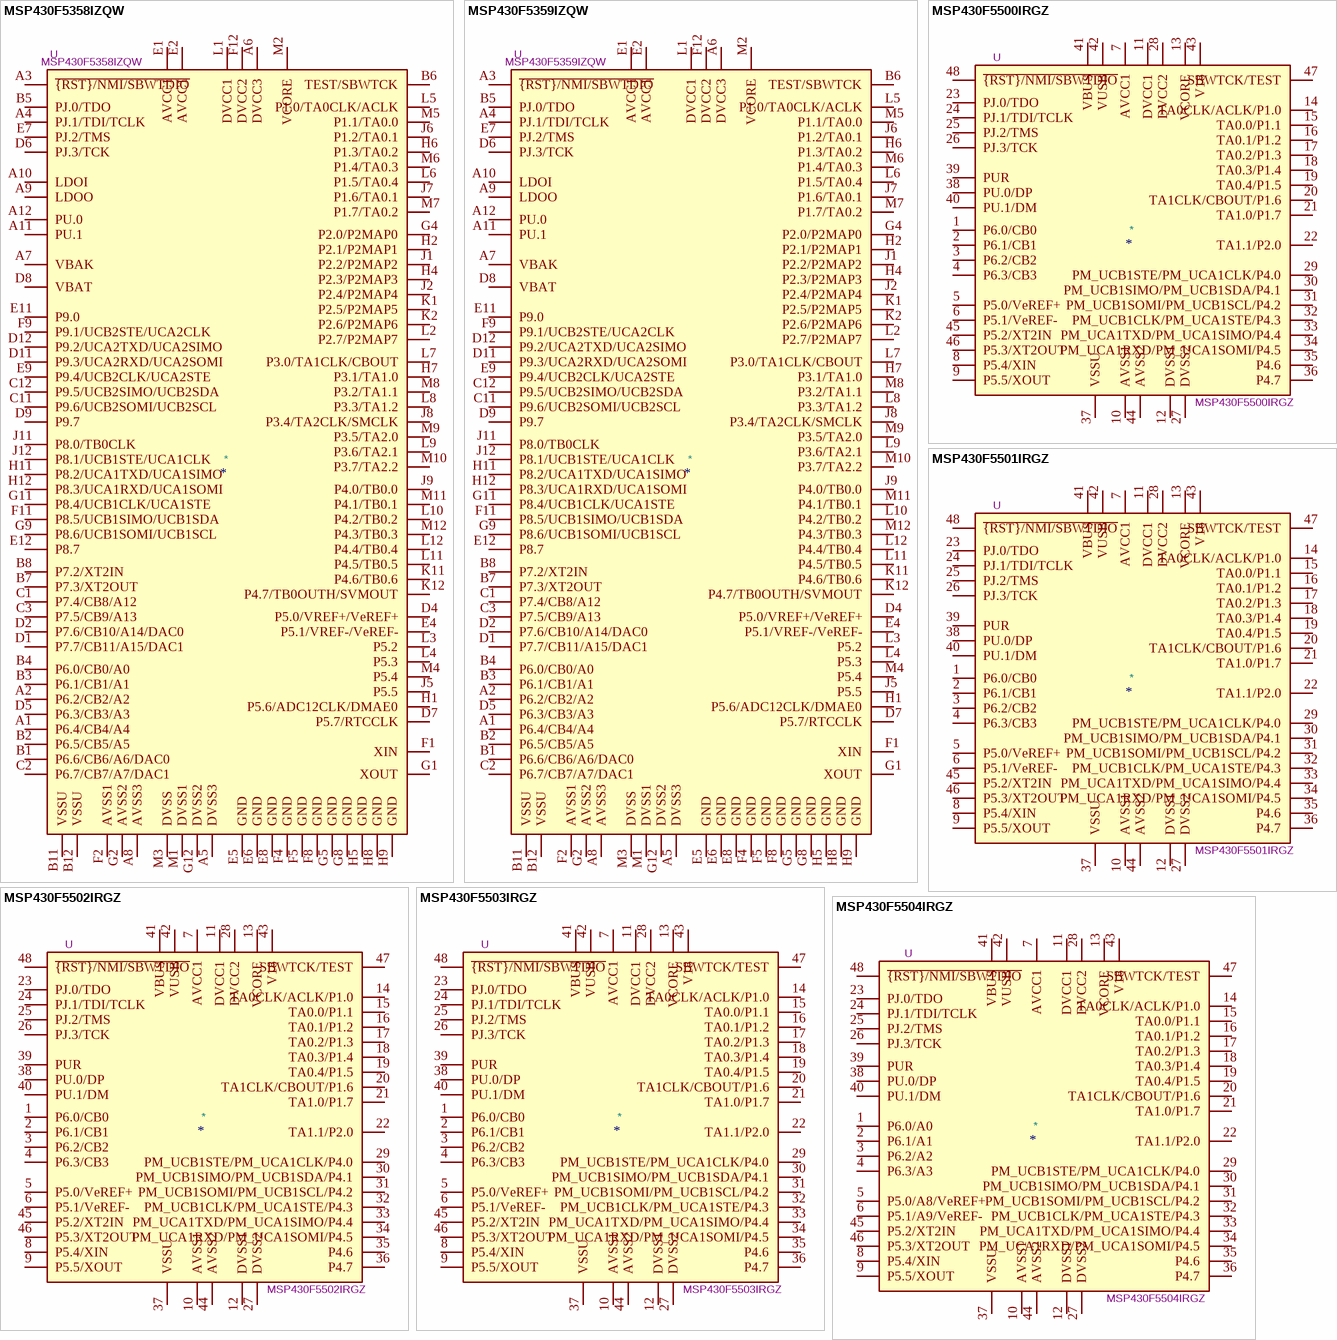
[diagram p15: symbols MSP430F5358IZQW to MSP430F5504IRGZ]

## MSP430F5358IZQW
designator *  value MSP430F5358IZQW  Reference: U
ki_keywords: TI MSP430 16-bit mixed signal microcontroller; ki_description: 384kB Flash, 34kB RAM, BGA-113; ki_fp_filters: Texas*MicroStar*Junior*BGA*7.0x7.0mm*Layout12x12*P0.5mm*; Footprint: Package_BGA:Texas_MicroStar_Junior_BGA-113_7.0x7.0mm_Layout12x12_P0.5mm; Datasheet: http://www.ti.com/lit/ds/symlink/msp430f5358.pdf
pins: A1 P6.4/CB4/A4, A2 P6.2/CB2/A2, A3 ~{{RST}/NMI/SBWTDIO}, A4 PJ.1/TDI/TCLK, A5 DVSS3, A6 DVCC3, A7 VBAK, A8 AVSS3, A9 LDOO, A10 LDOI, A11 PU.1, A12 PU.0, B1 P6.6/CB6/A6/DAC0, B2 P6.5/CB5/A5, B3 P6.1/CB1/A1, B4 P6.0/CB0/A0, B5 PJ.0/TDO, B6 TEST/SBWTCK, B7 P7.3/XT2OUT, B8 P7.2/XT2IN, B11 VSSU, B12 VSSU, C1 P7.4/CB8/A12, C2 P6.7/CB7/A7/DAC1, C3 P7.5/CB9/A13, C11 P9.6/UCB2SOMI/UCB2SCL, C12 P9.5/UCB2SIMO/UCB2SDA, D1 P7.7/CB11/A15/DAC1, D2 P7.6/CB10/A14/DAC0, D4 P5.0/VREF+/VeREF+, D5 P6.3/CB3/A3, D6 PJ.3/TCK, D7 P5.7/RTCCLK, D8 VBAT, D9 P9.7, D11 P9.3/UCA2RXD/UCA2SOMI, D12 P9.2/UCA2TXD/UCA2SIMO, E1 AVCC1, E2 AVCC1, E4 P5.1/VREF-/VeREF-, E5 GND, E6 GND, E7 PJ.2/TMS, E8 GND, E9 P9.4/UCB2CLK/UCA2STE, E11 P9.0, E12 P8.7, F1 XIN, F2 AVSS1, F4 GND, F5 GND, F8 GND, F9 P9.1/UCB2STE/UCA2CLK, F11 P8.5/UCB1SIMO/UCB1SDA, F12 DVCC2, G1 XOUT, G2 AVSS2, G4 P2.0/P2MAP0, G5 GND, G8 GND, G9 P8.6/UCB1SOMI/UCB1SCL, G11 P8.4/UCB1CLK/UCA1STE, G12 DVSS2, H1 P5.6/ADC12CLK/DMAE0, H2 P2.1/P2MAP1, H4 P2.3/P2MAP3, H5 GND, H6 P1.3/TA0.2, H7 P3.1/TA1.0, H8 GND, H9 GND, H11 P8.2/UCA1TXD/UCA1SIMO, H12 P8.3/UCA1RXD/UCA1SOMI, J1 P2.2/P2MAP2, J2 P2.4/P2MAP4, J5 P5.5, J6 P1.2/TA0.1, J7 P1.6/TA0.1, J8 P3.4/TA2CLK/SMCLK, J9 P4.0/TB0.0, J11 P8.0/TB0CLK, J12 P8.1/UCB1STE/UCA1CLK, K1 P2.5/P2MAP5, K2 P2.6/P2MAP6, K11 P4.6/TB0.6, K12 P4.7/TB0OUTH/SVMOUT, L1 DVCC1, L2 P2.7/P2MAP7, L3 P5.2, L4 P5.3, L5 P1.0/TA0CLK/ACLK, L6 P1.5/TA0.4, L7 P3.0/TA1CLK/CBOUT, L8 P3.3/TA1.2, L9 P3.6/TA2.1, L10 P4.2/TB0.2, L11 P4.5/TB0.5, L12 P4.4/TB0.4, M1 DVSS1, M2 VCORE, M3 DVSS, M4 P5.4, M5 P1.1/TA0.0, M6 P1.4/TA0.3, M7 P1.7/TA0.2, M8 P3.2/TA1.1, M9 P3.5/TA2.0, M10 P3.7/TA2.2, M11 P4.1/TB0.1, M12 P4.3/TB0.3